# Altium integrated library Xilinx Spartan-II.IntLib: 120 symbols (part 3 of 14)
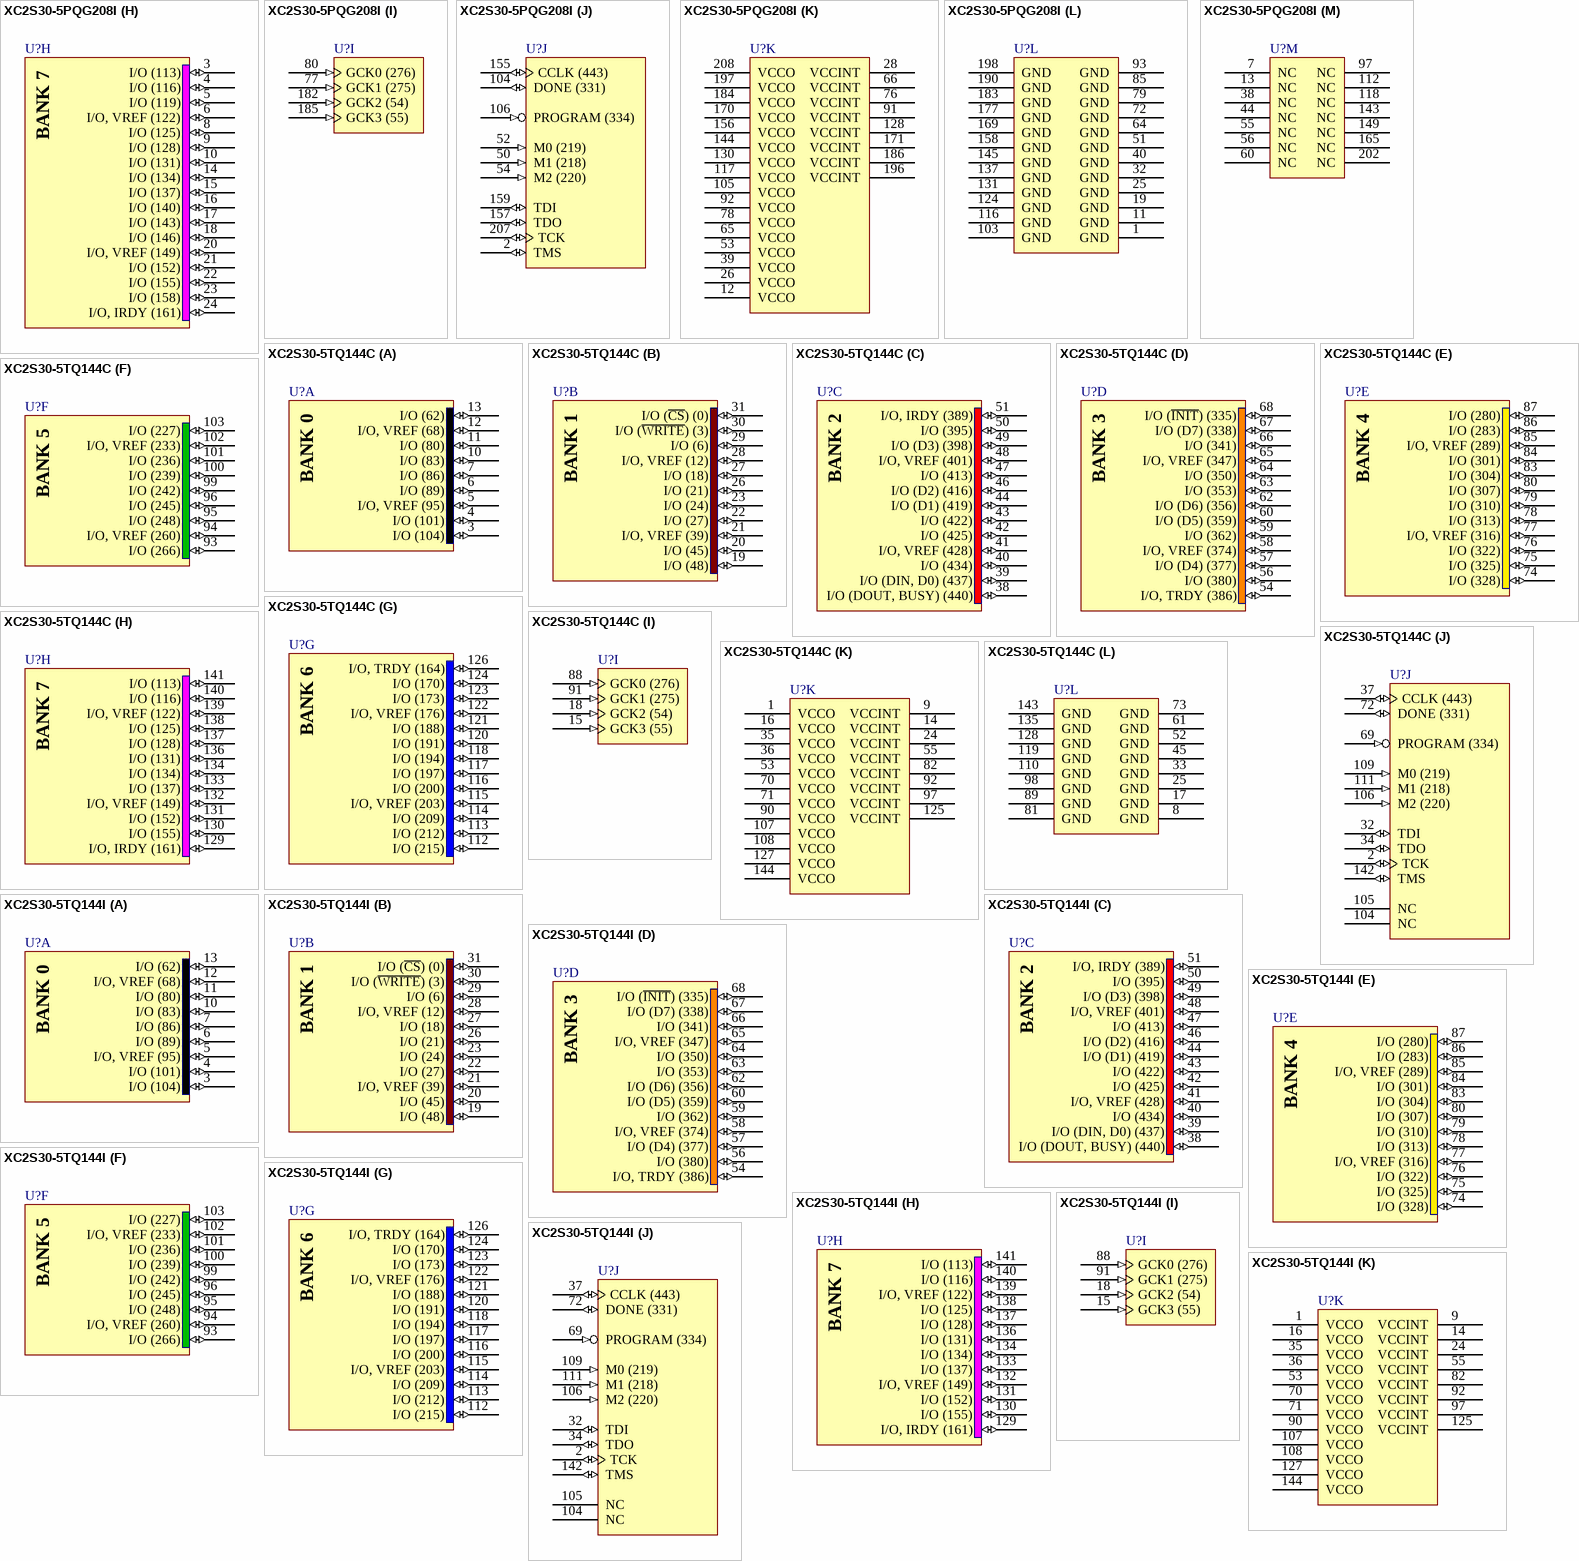
[diagram p73: symbols XC2S30-5PQG208I to XC2S30-5TQ144I]

## XC2S30-5PQG208I
designator U?
Spartan-II 2.5V FPGA, 132 User I/Os, 208-Pin PQFP, Standard Performance, Industrial Grade, Pb-Free; DatasheetVersion: ver2.8, Jun-2008; PackageVersion: ver1.2, Jun-2004; PackageReference: PQG208; PackageDescription: 208-Pin Plastic Quad Flat Pack (PQG208) - Pb-Free; Code_JEDEC: MS-029-FA-1; ComponentLink1Description: Manufacturer URL; ComponentLink1URL: http://www.xilinx.com/; ComponentLink2Description: Spartan-II Datasheet; ComponentLink2URL: http://www.xilinx.com/support/documentation/data_sheets/ds001.pdf; ComponentLink3Description: PQG208 Package Drawing; ComponentLink3URL: http://www.xilinx.com/support/documentation/package_specs/pq208.pdf; ComponentLink4Description: Spartan-II Documents; ComponentLink4URL: http://www.xilinx.com/support/documentation/spartan-ii.htm
footprint PQG208_N (Shrink QFP, 208-Leads, Body 28x28mm, Pitch 0.5mm, IPC Medium Density)
footprint PQG208_L (Shrink QFP, 208-Leads, Body 28x28mm, Pitch 0.5mm, IPC High Density)
footprint PQG208_M (Shrink QFP, 208-Leads, Body 28x28mm, Pitch 0.5mm, IPC Low Density)
part A pins: 187 I/O (62) (io), 188 I/O (65) (io), 189 I/O, VREF (68) (io), 191 I/O (71) (io), 192 I/O (74) (io), 193 I/O (77) (io), 194 I/O (80) (io), 195 I/O (83) (io), 199 I/O (86) (io), 200 I/O (89) (io), 201 I/O (92) (io), 203 I/O, VREF (95) (io), 204 I/O (98) (io), 205 I/O (101) (io), 206 I/O (104) (io)
part B pins: 160 I/O (~{CS}) (0) (io), 161 I/O (~{WRITE}) (3) (io), 162 I/O (6) (io), 163 I/O (9) (io), 164 I/O, VREF (12) (io), 166 I/O (15) (io), 167 I/O (18) (io), 168 I/O (21) (io), 172 I/O (24) (io), 173 I/O (27) (io), 174 I/O (30) (io), 175 I/O (33) (io), 176 I/O (36) (io), 178 I/O, VREF (39) (io), 179 I/O (42) (io), 180 I/O (45) (io), 181 I/O (48) (io)
part C pins: 132 I/O, IRDY (389) (io), 133 I/O (392) (io), 134 I/O (395) (io), 135 I/O (D3) (398) (io), 136 I/O, VREF (401) (io), 138 I/O (404) (io), 139 I/O (407) (io), 140 I/O (410) (io), 141 I/O (413) (io), 142 I/O (D2) (416) (io), 146 I/O (D1) (419) (io), 147 I/O (422) (io), 148 I/O (425) (io), 150 I/O, VREF (428) (io), 151 I/O (431) (io), 152 I/O (434) (io), 153 I/O (DIN, D0) (437) (io), 154 I/O (DOUT, BUSY) (440) (io)
part D pins: 107 I/O (~{INIT}) (335) (io), 108 I/O (D7) (338) (io), 109 I/O (341) (io), 110 I/O (344) (io), 111 I/O, VREF (347) (io), 113 I/O (350) (io), 114 I/O (353) (io), 115 I/O (D6) (356) (io), 119 I/O (D5) (359) (io), 120 I/O (362) (io), 121 I/O (365) (io), 122 I/O (368) (io), 123 I/O (371) (io), 125 I/O, VREF (374) (io), 126 I/O (D4) (377) (io), 127 I/O (380) (io), 129 I/O, TRDY (386) (io)
part E pins: 81 I/O (280) (io), 82 I/O (283) (io), 83 I/O (286) (io), 84 I/O, VREF (289) (io), 86 I/O (292) (io), 87 I/O (295) (io), 88 I/O (298) (io), 89 I/O (301) (io), 90 I/O (304) (io), 94 I/O (307) (io), 95 I/O (310) (io), 96 I/O (313) (io), 98 I/O, VREF (316) (io), 99 I/O (319) (io), 100 I/O (322) (io), 101 I/O (325) (io), 102 I/O (328) (io)
part F pins: 57 I/O (227) (io), 58 I/O (230) (io), 59 I/O, VREF (233) (io), 61 I/O (236) (io), 62 I/O (239) (io), 63 I/O (242) (io), 67 I/O (245) (io), 68 I/O (248) (io), 69 I/O (251) (io), 70 I/O (254) (io), 71 I/O (257) (io), 73 I/O, VREF (260) (io), 74 I/O (263) (io), 75 I/O (266) (io)
part G pins: 27 I/O, TRDY (164) (io), 29 I/O (170) (io), 30 I/O (173) (io), 31 I/O, VREF (176) (io), 33 I/O (179) (io), 34 I/O (182) (io), 35 I/O (185) (io), 36 I/O (188) (io), 37 I/O (191) (io), 41 I/O (194) (io), 42 I/O (197) (io), 43 I/O (200) (io), 45 I/O, VREF (203) (io), 46 I/O (206) (io), 47 I/O (209) (io), 48 I/O (212) (io), 49 I/O (215) (io)
part H pins: 3 I/O (113) (io), 4 I/O (116) (io), 5 I/O (119) (io), 6 I/O, VREF (122) (io), 8 I/O (125) (io), 9 I/O (128) (io), 10 I/O (131) (io), 14 I/O (134) (io), 15 I/O (137) (io), 16 I/O (140) (io), 17 I/O (143) (io), 18 I/O (146) (io), 20 I/O, VREF (149) (io), 21 I/O (152) (io), 22 I/O (155) (io), 23 I/O (158) (io), 24 I/O, IRDY (161) (io)
part I pins: 77 GCK1 (275) (in), 80 GCK0 (276) (in), 182 GCK2 (54) (in), 185 GCK3 (55) (in)
part J pins: 2 TMS (io), 50 M1 (218) (in), 52 M0 (219) (in), 54 M2 (220) (in), 104 DONE (331) (io), 106 PROGRAM (334) (in), 155 CCLK (443) (io), 157 TDO (io), 159 TDI (io), 207 TCK (io)
part K pins: 12 VCCO (power), 26 VCCO (power), 28 VCCINT (power), 39 VCCO (power), 53 VCCO (power), 65 VCCO (power), 66 VCCINT (power), 76 VCCINT (power), 78 VCCO (power), 91 VCCINT (power), 92 VCCO (power), 105 VCCO (power), 117 VCCO (power), 128 VCCINT (power), 130 VCCO (power), 144 VCCO (power), 156 VCCO (power), 170 VCCO (power), 171 VCCINT (power), 184 VCCO (power), 186 VCCINT (power), 196 VCCINT (power), 197 VCCO (power), 208 VCCO (power)
part L pins: 1 GND (power), 11 GND (power), 19 GND (power), 25 GND (power), 32 GND (power), 40 GND (power), 51 GND (power), 64 GND (power), 72 GND (power), 79 GND (power), 85 GND (power), 93 GND (power), 103 GND (power), 116 GND (power), 124 GND (power), 131 GND (power), 137 GND (power), 145 GND (power), 158 GND (power), 169 GND (power), 177 GND (power), 183 GND (power), 190 GND (power), 198 GND (power)
part M pins: 7 NC, 13 NC, 38 NC, 44 NC, 55 NC, 56 NC, 60 NC, 97 NC, 112 NC, 118 NC, 143 NC, 149 NC, 165 NC, 202 NC
part A text: BANK 0
part B text: BANK 1
part C text: BANK 2
part D text: BANK 3
part E text: BANK 4
part F text: BANK 5
part G text: BANK 6
part H text: BANK 7

## XC2S30-5TQ144C
designator U?
Spartan-II 2.5V FPGA, 92 User I/Os, 144-Pin TQFP, Standard Performance, Commercial Grade; DatasheetVersion: ver2.8, Jun-2008; PackageVersion: ver1.2, Jun-2004; PackageReference: TQ144; PackageDescription: 144-Pin Thin Quad Flat Pack (TQ144); Code_JEDEC: MS-026-BFB; ComponentLink1Description: Manufacturer URL; ComponentLink1URL: http://www.xilinx.com/; ComponentLink2Description: Spartan-II Datasheet; ComponentLink2URL: http://www.xilinx.com/support/documentation/data_sheets/ds001.pdf; ComponentLink3Description: TQ144 Package Drawing; ComponentLink3URL: http://www.xilinx.com/support/documentation/package_specs/tq144.pdf; ComponentLink4Description: Spartan-II Documents; ComponentLink4URL: http://www.xilinx.com/support/documentation/spartan-ii.htm
footprint TQ144_N (Thin QFP, 144-Leads, Body 20x20mm, Pitch 0.5mm, IPC Medium Density)
footprint TQ144_L (Thin QFP, 144-Leads, Body 20x20mm, Pitch 0.5mm, IPC High Density)
footprint TQ144_M (Thin QFP, 144-Leads, Body 20x20mm, Pitch 0.5mm, IPC Low Density)
part A pins: 3 I/O (104) (io), 4 I/O (101) (io), 5 I/O, VREF (95) (io), 6 I/O (89) (io), 7 I/O (86) (io), 10 I/O (83) (io), 11 I/O (80) (io), 12 I/O, VREF (68) (io), 13 I/O (62) (io)
part B pins: 19 I/O (48) (io), 20 I/O (45) (io), 21 I/O, VREF (39) (io), 22 I/O (27) (io), 23 I/O (24) (io), 26 I/O (21) (io), 27 I/O (18) (io), 28 I/O, VREF (12) (io), 29 I/O (6) (io), 30 I/O (~{WRITE}) (3) (io), 31 I/O (~{CS}) (0) (io)
part C pins: 38 I/O (DOUT, BUSY) (440) (io), 39 I/O (DIN, D0) (437) (io), 40 I/O (434) (io), 41 I/O, VREF (428) (io), 42 I/O (425) (io), 43 I/O (422) (io), 44 I/O (D1) (419) (io), 46 I/O (D2) (416) (io), 47 I/O (413) (io), 48 I/O, VREF (401) (io), 49 I/O (D3) (398) (io), 50 I/O (395) (io), 51 I/O, IRDY (389) (io)
part D pins: 54 I/O, TRDY (386) (io), 56 I/O (380) (io), 57 I/O (D4) (377) (io), 58 I/O, VREF (374) (io), 59 I/O (362) (io), 60 I/O (D5) (359) (io), 62 I/O (D6) (356) (io), 63 I/O (353) (io), 64 I/O (350) (io), 65 I/O, VREF (347) (io), 66 I/O (341) (io), 67 I/O (D7) (338) (io), 68 I/O (~{INIT}) (335) (io)
part E pins: 74 I/O (328) (io), 75 I/O (325) (io), 76 I/O (322) (io), 77 I/O, VREF (316) (io), 78 I/O (313) (io), 79 I/O (310) (io), 80 I/O (307) (io), 83 I/O (304) (io), 84 I/O (301) (io), 85 I/O, VREF (289) (io), 86 I/O (283) (io), 87 I/O (280) (io)
part F pins: 93 I/O (266) (io), 94 I/O, VREF (260) (io), 95 I/O (248) (io), 96 I/O (245) (io), 99 I/O (242) (io), 100 I/O (239) (io), 101 I/O (236) (io), 102 I/O, VREF (233) (io), 103 I/O (227) (io)
part G pins: 112 I/O (215) (io), 113 I/O (212) (io), 114 I/O (209) (io), 115 I/O, VREF (203) (io), 116 I/O (200) (io), 117 I/O (197) (io), 118 I/O (194) (io), 120 I/O (191) (io), 121 I/O (188) (io), 122 I/O, VREF (176) (io), 123 I/O (173) (io), 124 I/O (170) (io), 126 I/O, TRDY (164) (io)
part H pins: 129 I/O, IRDY (161) (io), 130 I/O (155) (io), 131 I/O (152) (io), 132 I/O, VREF (149) (io), 133 I/O (137) (io), 134 I/O (134) (io), 136 I/O (131) (io), 137 I/O (128) (io), 138 I/O (125) (io), 139 I/O, VREF (122) (io), 140 I/O (116) (io), 141 I/O (113) (io)
part I pins: 15 GCK3 (55) (in), 18 GCK2 (54) (in), 88 GCK0 (276) (in), 91 GCK1 (275) (in)
part J pins: 2 TCK (io), 32 TDI (io), 34 TDO (io), 37 CCLK (443) (io), 69 PROGRAM (334) (in), 72 DONE (331) (io), 104 NC, 105 NC, 106 M2 (220) (in), 109 M0 (219) (in), 111 M1 (218) (in), 142 TMS (io)
part K pins: 1 VCCO (power), 9 VCCINT (power), 14 VCCINT (power), 16 VCCO (power), 24 VCCINT (power), 35 VCCO (power), 36 VCCO (power), 53 VCCO (power), 55 VCCINT (power), 70 VCCO (power), 71 VCCO (power), 82 VCCINT (power), 90 VCCO (power), 92 VCCINT (power), 97 VCCINT (power), 107 VCCO (power), 108 VCCO (power), 125 VCCINT (power), 127 VCCO (power), 144 VCCO (power)
part L pins: 8 GND (power), 17 GND (power), 25 GND (power), 33 GND (power), 45 GND (power), 52 GND (power), 61 GND (power), 73 GND (power), 81 GND (power), 89 GND (power), 98 GND (power), 110 GND (power), 119 GND (power), 128 GND (power), 135 GND (power), 143 GND (power)
part A text: BANK 0
part B text: BANK 1
part C text: BANK 2
part D text: BANK 3
part E text: BANK 4
part F text: BANK 5
part G text: BANK 6
part H text: BANK 7

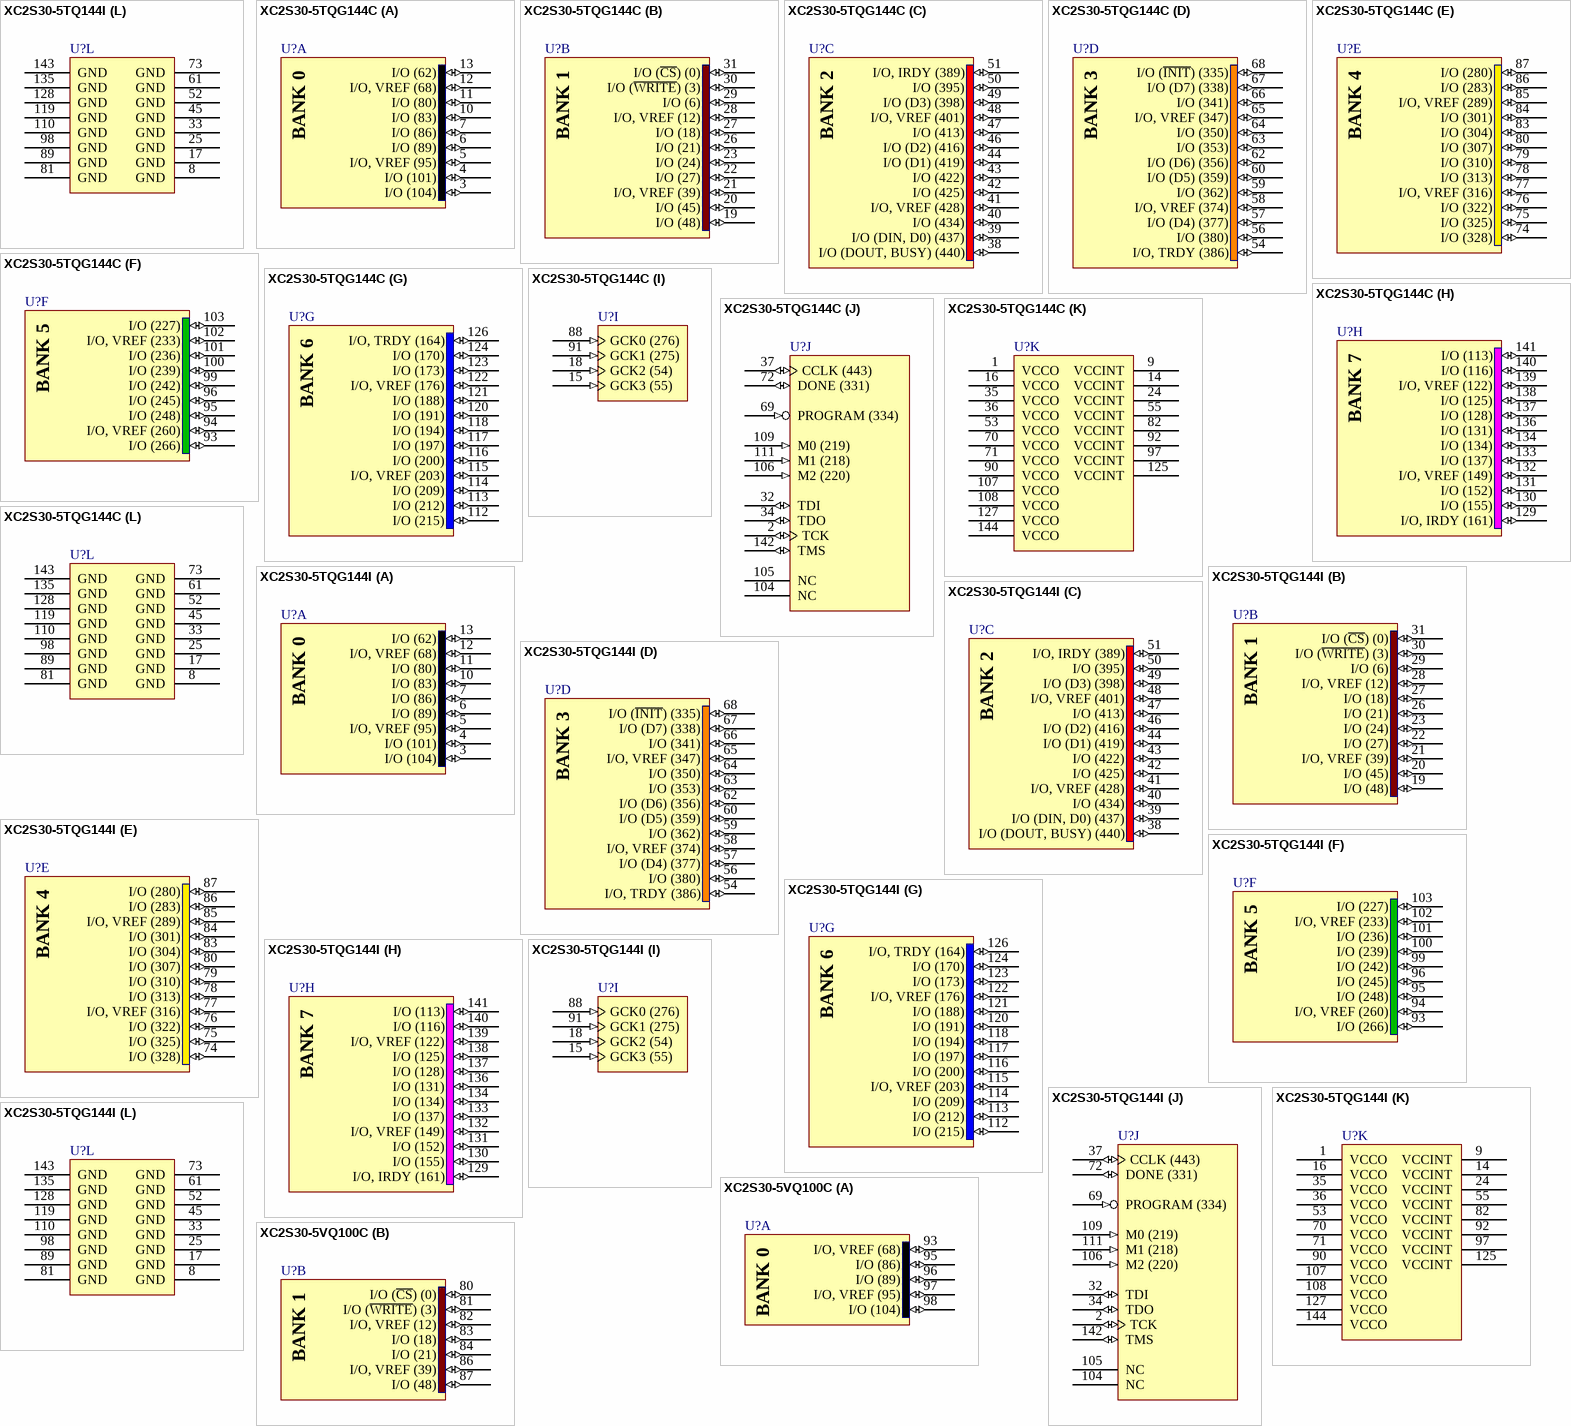
[diagram p12: symbols XC2S30-5TQ144I to XC2S30-5VQ100C]

## XC2S30-5TQ144I
designator U?
Spartan-II 2.5V FPGA, 92 User I/Os, 144-Pin TQFP, Standard Performance, Industrial Grade; DatasheetVersion: ver2.8, Jun-2008; PackageVersion: ver1.2, Jun-2004; PackageReference: TQ144; PackageDescription: 144-Pin Thin Quad Flat Pack (TQ144); Code_JEDEC: MS-026-BFB; ComponentLink1Description: Manufacturer URL; ComponentLink1URL: http://www.xilinx.com/; ComponentLink2Description: Spartan-II Datasheet; ComponentLink2URL: http://www.xilinx.com/support/documentation/data_sheets/ds001.pdf; ComponentLink3Description: TQ144 Package Drawing; ComponentLink3URL: http://www.xilinx.com/support/documentation/package_specs/tq144.pdf; ComponentLink4Description: Spartan-II Documents; ComponentLink4URL: http://www.xilinx.com/support/documentation/spartan-ii.htm
footprint TQ144_N (Thin QFP, 144-Leads, Body 20x20mm, Pitch 0.5mm, IPC Medium Density)
footprint TQ144_L (Thin QFP, 144-Leads, Body 20x20mm, Pitch 0.5mm, IPC High Density)
footprint TQ144_M (Thin QFP, 144-Leads, Body 20x20mm, Pitch 0.5mm, IPC Low Density)
part A pins: 3 I/O (104) (io), 4 I/O (101) (io), 5 I/O, VREF (95) (io), 6 I/O (89) (io), 7 I/O (86) (io), 10 I/O (83) (io), 11 I/O (80) (io), 12 I/O, VREF (68) (io), 13 I/O (62) (io)
part B pins: 19 I/O (48) (io), 20 I/O (45) (io), 21 I/O, VREF (39) (io), 22 I/O (27) (io), 23 I/O (24) (io), 26 I/O (21) (io), 27 I/O (18) (io), 28 I/O, VREF (12) (io), 29 I/O (6) (io), 30 I/O (~{WRITE}) (3) (io), 31 I/O (~{CS}) (0) (io)
part C pins: 38 I/O (DOUT, BUSY) (440) (io), 39 I/O (DIN, D0) (437) (io), 40 I/O (434) (io), 41 I/O, VREF (428) (io), 42 I/O (425) (io), 43 I/O (422) (io), 44 I/O (D1) (419) (io), 46 I/O (D2) (416) (io), 47 I/O (413) (io), 48 I/O, VREF (401) (io), 49 I/O (D3) (398) (io), 50 I/O (395) (io), 51 I/O, IRDY (389) (io)
part D pins: 54 I/O, TRDY (386) (io), 56 I/O (380) (io), 57 I/O (D4) (377) (io), 58 I/O, VREF (374) (io), 59 I/O (362) (io), 60 I/O (D5) (359) (io), 62 I/O (D6) (356) (io), 63 I/O (353) (io), 64 I/O (350) (io), 65 I/O, VREF (347) (io), 66 I/O (341) (io), 67 I/O (D7) (338) (io), 68 I/O (~{INIT}) (335) (io)
part E pins: 74 I/O (328) (io), 75 I/O (325) (io), 76 I/O (322) (io), 77 I/O, VREF (316) (io), 78 I/O (313) (io), 79 I/O (310) (io), 80 I/O (307) (io), 83 I/O (304) (io), 84 I/O (301) (io), 85 I/O, VREF (289) (io), 86 I/O (283) (io), 87 I/O (280) (io)
part F pins: 93 I/O (266) (io), 94 I/O, VREF (260) (io), 95 I/O (248) (io), 96 I/O (245) (io), 99 I/O (242) (io), 100 I/O (239) (io), 101 I/O (236) (io), 102 I/O, VREF (233) (io), 103 I/O (227) (io)
part G pins: 112 I/O (215) (io), 113 I/O (212) (io), 114 I/O (209) (io), 115 I/O, VREF (203) (io), 116 I/O (200) (io), 117 I/O (197) (io), 118 I/O (194) (io), 120 I/O (191) (io), 121 I/O (188) (io), 122 I/O, VREF (176) (io), 123 I/O (173) (io), 124 I/O (170) (io), 126 I/O, TRDY (164) (io)
part H pins: 129 I/O, IRDY (161) (io), 130 I/O (155) (io), 131 I/O (152) (io), 132 I/O, VREF (149) (io), 133 I/O (137) (io), 134 I/O (134) (io), 136 I/O (131) (io), 137 I/O (128) (io), 138 I/O (125) (io), 139 I/O, VREF (122) (io), 140 I/O (116) (io), 141 I/O (113) (io)
part I pins: 15 GCK3 (55) (in), 18 GCK2 (54) (in), 88 GCK0 (276) (in), 91 GCK1 (275) (in)
part J pins: 2 TCK (io), 32 TDI (io), 34 TDO (io), 37 CCLK (443) (io), 69 PROGRAM (334) (in), 72 DONE (331) (io), 104 NC, 105 NC, 106 M2 (220) (in), 109 M0 (219) (in), 111 M1 (218) (in), 142 TMS (io)
part K pins: 1 VCCO (power), 9 VCCINT (power), 14 VCCINT (power), 16 VCCO (power), 24 VCCINT (power), 35 VCCO (power), 36 VCCO (power), 53 VCCO (power), 55 VCCINT (power), 70 VCCO (power), 71 VCCO (power), 82 VCCINT (power), 90 VCCO (power), 92 VCCINT (power), 97 VCCINT (power), 107 VCCO (power), 108 VCCO (power), 125 VCCINT (power), 127 VCCO (power), 144 VCCO (power)
part L pins: 8 GND (power), 17 GND (power), 25 GND (power), 33 GND (power), 45 GND (power), 52 GND (power), 61 GND (power), 73 GND (power), 81 GND (power), 89 GND (power), 98 GND (power), 110 GND (power), 119 GND (power), 128 GND (power), 135 GND (power), 143 GND (power)
part A text: BANK 0
part B text: BANK 1
part C text: BANK 2
part D text: BANK 3
part E text: BANK 4
part F text: BANK 5
part G text: BANK 6
part H text: BANK 7

## XC2S30-5TQG144C
designator U?
Spartan-II 2.5V FPGA, 92 User I/Os, 144-Pin TQFP, Standard Performance, Commercial Grade, Pb-Free; DatasheetVersion: ver2.8, Jun-2008; PackageVersion: ver1.2, Jun-2004; PackageReference: TQG144; PackageDescription: 144-Pin Thin Quad Flat Pack (TQG144) - Pb-Free; Code_JEDEC: MS-026-BFB; ComponentLink1Description: Manufacturer URL; ComponentLink1URL: http://www.xilinx.com/; ComponentLink2Description: Spartan-II Datasheet; ComponentLink2URL: http://www.xilinx.com/support/documentation/data_sheets/ds001.pdf; ComponentLink3Description: TQG144 Package Drawing; ComponentLink3URL: http://www.xilinx.com/support/documentation/package_specs/tq144.pdf; ComponentLink4Description: Spartan-II Documents; ComponentLink4URL: http://www.xilinx.com/support/documentation/spartan-ii.htm
footprint TQG144_N (Thin QFP, 144-Leads, Body 20x20mm, Pitch 0.5mm, IPC Medium Density)
footprint TQG144_L (Thin QFP, 144-Leads, Body 20x20mm, Pitch 0.5mm, IPC High Density)
footprint TQG144_M (Thin QFP, 144-Leads, Body 20x20mm, Pitch 0.5mm, IPC Low Density)
part A pins: 3 I/O (104) (io), 4 I/O (101) (io), 5 I/O, VREF (95) (io), 6 I/O (89) (io), 7 I/O (86) (io), 10 I/O (83) (io), 11 I/O (80) (io), 12 I/O, VREF (68) (io), 13 I/O (62) (io)
part B pins: 19 I/O (48) (io), 20 I/O (45) (io), 21 I/O, VREF (39) (io), 22 I/O (27) (io), 23 I/O (24) (io), 26 I/O (21) (io), 27 I/O (18) (io), 28 I/O, VREF (12) (io), 29 I/O (6) (io), 30 I/O (~{WRITE}) (3) (io), 31 I/O (~{CS}) (0) (io)
part C pins: 38 I/O (DOUT, BUSY) (440) (io), 39 I/O (DIN, D0) (437) (io), 40 I/O (434) (io), 41 I/O, VREF (428) (io), 42 I/O (425) (io), 43 I/O (422) (io), 44 I/O (D1) (419) (io), 46 I/O (D2) (416) (io), 47 I/O (413) (io), 48 I/O, VREF (401) (io), 49 I/O (D3) (398) (io), 50 I/O (395) (io), 51 I/O, IRDY (389) (io)
part D pins: 54 I/O, TRDY (386) (io), 56 I/O (380) (io), 57 I/O (D4) (377) (io), 58 I/O, VREF (374) (io), 59 I/O (362) (io), 60 I/O (D5) (359) (io), 62 I/O (D6) (356) (io), 63 I/O (353) (io), 64 I/O (350) (io), 65 I/O, VREF (347) (io), 66 I/O (341) (io), 67 I/O (D7) (338) (io), 68 I/O (~{INIT}) (335) (io)
part E pins: 74 I/O (328) (io), 75 I/O (325) (io), 76 I/O (322) (io), 77 I/O, VREF (316) (io), 78 I/O (313) (io), 79 I/O (310) (io), 80 I/O (307) (io), 83 I/O (304) (io), 84 I/O (301) (io), 85 I/O, VREF (289) (io), 86 I/O (283) (io), 87 I/O (280) (io)
part F pins: 93 I/O (266) (io), 94 I/O, VREF (260) (io), 95 I/O (248) (io), 96 I/O (245) (io), 99 I/O (242) (io), 100 I/O (239) (io), 101 I/O (236) (io), 102 I/O, VREF (233) (io), 103 I/O (227) (io)
part G pins: 112 I/O (215) (io), 113 I/O (212) (io), 114 I/O (209) (io), 115 I/O, VREF (203) (io), 116 I/O (200) (io), 117 I/O (197) (io), 118 I/O (194) (io), 120 I/O (191) (io), 121 I/O (188) (io), 122 I/O, VREF (176) (io), 123 I/O (173) (io), 124 I/O (170) (io), 126 I/O, TRDY (164) (io)
part H pins: 129 I/O, IRDY (161) (io), 130 I/O (155) (io), 131 I/O (152) (io), 132 I/O, VREF (149) (io), 133 I/O (137) (io), 134 I/O (134) (io), 136 I/O (131) (io), 137 I/O (128) (io), 138 I/O (125) (io), 139 I/O, VREF (122) (io), 140 I/O (116) (io), 141 I/O (113) (io)
part I pins: 15 GCK3 (55) (in), 18 GCK2 (54) (in), 88 GCK0 (276) (in), 91 GCK1 (275) (in)
part J pins: 2 TCK (io), 32 TDI (io), 34 TDO (io), 37 CCLK (443) (io), 69 PROGRAM (334) (in), 72 DONE (331) (io), 104 NC, 105 NC, 106 M2 (220) (in), 109 M0 (219) (in), 111 M1 (218) (in), 142 TMS (io)
part K pins: 1 VCCO (power), 9 VCCINT (power), 14 VCCINT (power), 16 VCCO (power), 24 VCCINT (power), 35 VCCO (power), 36 VCCO (power), 53 VCCO (power), 55 VCCINT (power), 70 VCCO (power), 71 VCCO (power), 82 VCCINT (power), 90 VCCO (power), 92 VCCINT (power), 97 VCCINT (power), 107 VCCO (power), 108 VCCO (power), 125 VCCINT (power), 127 VCCO (power), 144 VCCO (power)
part L pins: 8 GND (power), 17 GND (power), 25 GND (power), 33 GND (power), 45 GND (power), 52 GND (power), 61 GND (power), 73 GND (power), 81 GND (power), 89 GND (power), 98 GND (power), 110 GND (power), 119 GND (power), 128 GND (power), 135 GND (power), 143 GND (power)
part A text: BANK 0
part B text: BANK 1
part C text: BANK 2
part D text: BANK 3
part E text: BANK 4
part F text: BANK 5
part G text: BANK 6
part H text: BANK 7

## XC2S30-5TQG144I
designator U?
Spartan-II 2.5V FPGA, 92 User I/Os, 144-Pin TQFP, Standard Performance, Industrial Grade, Pb-Free; DatasheetVersion: ver2.8, Jun-2008; PackageVersion: ver1.2, Jun-2004; PackageReference: TQG144; PackageDescription: 144-Pin Thin Quad Flat Pack (TQG144) - Pb-Free; Code_JEDEC: MS-026-BFB; ComponentLink1Description: Manufacturer URL; ComponentLink1URL: http://www.xilinx.com/; ComponentLink2Description: Spartan-II Datasheet; ComponentLink2URL: http://www.xilinx.com/support/documentation/data_sheets/ds001.pdf; ComponentLink3Description: TQG144 Package Drawing; ComponentLink3URL: http://www.xilinx.com/support/documentation/package_specs/tq144.pdf; ComponentLink4Description: Spartan-II Documents; ComponentLink4URL: http://www.xilinx.com/support/documentation/spartan-ii.htm
footprint TQG144_N (Thin QFP, 144-Leads, Body 20x20mm, Pitch 0.5mm, IPC Medium Density)
footprint TQG144_L (Thin QFP, 144-Leads, Body 20x20mm, Pitch 0.5mm, IPC High Density)
footprint TQG144_M (Thin QFP, 144-Leads, Body 20x20mm, Pitch 0.5mm, IPC Low Density)
part A pins: 3 I/O (104) (io), 4 I/O (101) (io), 5 I/O, VREF (95) (io), 6 I/O (89) (io), 7 I/O (86) (io), 10 I/O (83) (io), 11 I/O (80) (io), 12 I/O, VREF (68) (io), 13 I/O (62) (io)
part B pins: 19 I/O (48) (io), 20 I/O (45) (io), 21 I/O, VREF (39) (io), 22 I/O (27) (io), 23 I/O (24) (io), 26 I/O (21) (io), 27 I/O (18) (io), 28 I/O, VREF (12) (io), 29 I/O (6) (io), 30 I/O (~{WRITE}) (3) (io), 31 I/O (~{CS}) (0) (io)
part C pins: 38 I/O (DOUT, BUSY) (440) (io), 39 I/O (DIN, D0) (437) (io), 40 I/O (434) (io), 41 I/O, VREF (428) (io), 42 I/O (425) (io), 43 I/O (422) (io), 44 I/O (D1) (419) (io), 46 I/O (D2) (416) (io), 47 I/O (413) (io), 48 I/O, VREF (401) (io), 49 I/O (D3) (398) (io), 50 I/O (395) (io), 51 I/O, IRDY (389) (io)
part D pins: 54 I/O, TRDY (386) (io), 56 I/O (380) (io), 57 I/O (D4) (377) (io), 58 I/O, VREF (374) (io), 59 I/O (362) (io), 60 I/O (D5) (359) (io), 62 I/O (D6) (356) (io), 63 I/O (353) (io), 64 I/O (350) (io), 65 I/O, VREF (347) (io), 66 I/O (341) (io), 67 I/O (D7) (338) (io), 68 I/O (~{INIT}) (335) (io)
part E pins: 74 I/O (328) (io), 75 I/O (325) (io), 76 I/O (322) (io), 77 I/O, VREF (316) (io), 78 I/O (313) (io), 79 I/O (310) (io), 80 I/O (307) (io), 83 I/O (304) (io), 84 I/O (301) (io), 85 I/O, VREF (289) (io), 86 I/O (283) (io), 87 I/O (280) (io)
part F pins: 93 I/O (266) (io), 94 I/O, VREF (260) (io), 95 I/O (248) (io), 96 I/O (245) (io), 99 I/O (242) (io), 100 I/O (239) (io), 101 I/O (236) (io), 102 I/O, VREF (233) (io), 103 I/O (227) (io)
part G pins: 112 I/O (215) (io), 113 I/O (212) (io), 114 I/O (209) (io), 115 I/O, VREF (203) (io), 116 I/O (200) (io), 117 I/O (197) (io), 118 I/O (194) (io), 120 I/O (191) (io), 121 I/O (188) (io), 122 I/O, VREF (176) (io), 123 I/O (173) (io), 124 I/O (170) (io), 126 I/O, TRDY (164) (io)
part H pins: 129 I/O, IRDY (161) (io), 130 I/O (155) (io), 131 I/O (152) (io), 132 I/O, VREF (149) (io), 133 I/O (137) (io), 134 I/O (134) (io), 136 I/O (131) (io), 137 I/O (128) (io), 138 I/O (125) (io), 139 I/O, VREF (122) (io), 140 I/O (116) (io), 141 I/O (113) (io)
part I pins: 15 GCK3 (55) (in), 18 GCK2 (54) (in), 88 GCK0 (276) (in), 91 GCK1 (275) (in)
part J pins: 2 TCK (io), 32 TDI (io), 34 TDO (io), 37 CCLK (443) (io), 69 PROGRAM (334) (in), 72 DONE (331) (io), 104 NC, 105 NC, 106 M2 (220) (in), 109 M0 (219) (in), 111 M1 (218) (in), 142 TMS (io)
part K pins: 1 VCCO (power), 9 VCCINT (power), 14 VCCINT (power), 16 VCCO (power), 24 VCCINT (power), 35 VCCO (power), 36 VCCO (power), 53 VCCO (power), 55 VCCINT (power), 70 VCCO (power), 71 VCCO (power), 82 VCCINT (power), 90 VCCO (power), 92 VCCINT (power), 97 VCCINT (power), 107 VCCO (power), 108 VCCO (power), 125 VCCINT (power), 127 VCCO (power), 144 VCCO (power)
part L pins: 8 GND (power), 17 GND (power), 25 GND (power), 33 GND (power), 45 GND (power), 52 GND (power), 61 GND (power), 73 GND (power), 81 GND (power), 89 GND (power), 98 GND (power), 110 GND (power), 119 GND (power), 128 GND (power), 135 GND (power), 143 GND (power)
part A text: BANK 0
part B text: BANK 1
part C text: BANK 2
part D text: BANK 3
part E text: BANK 4
part F text: BANK 5
part G text: BANK 6
part H text: BANK 7

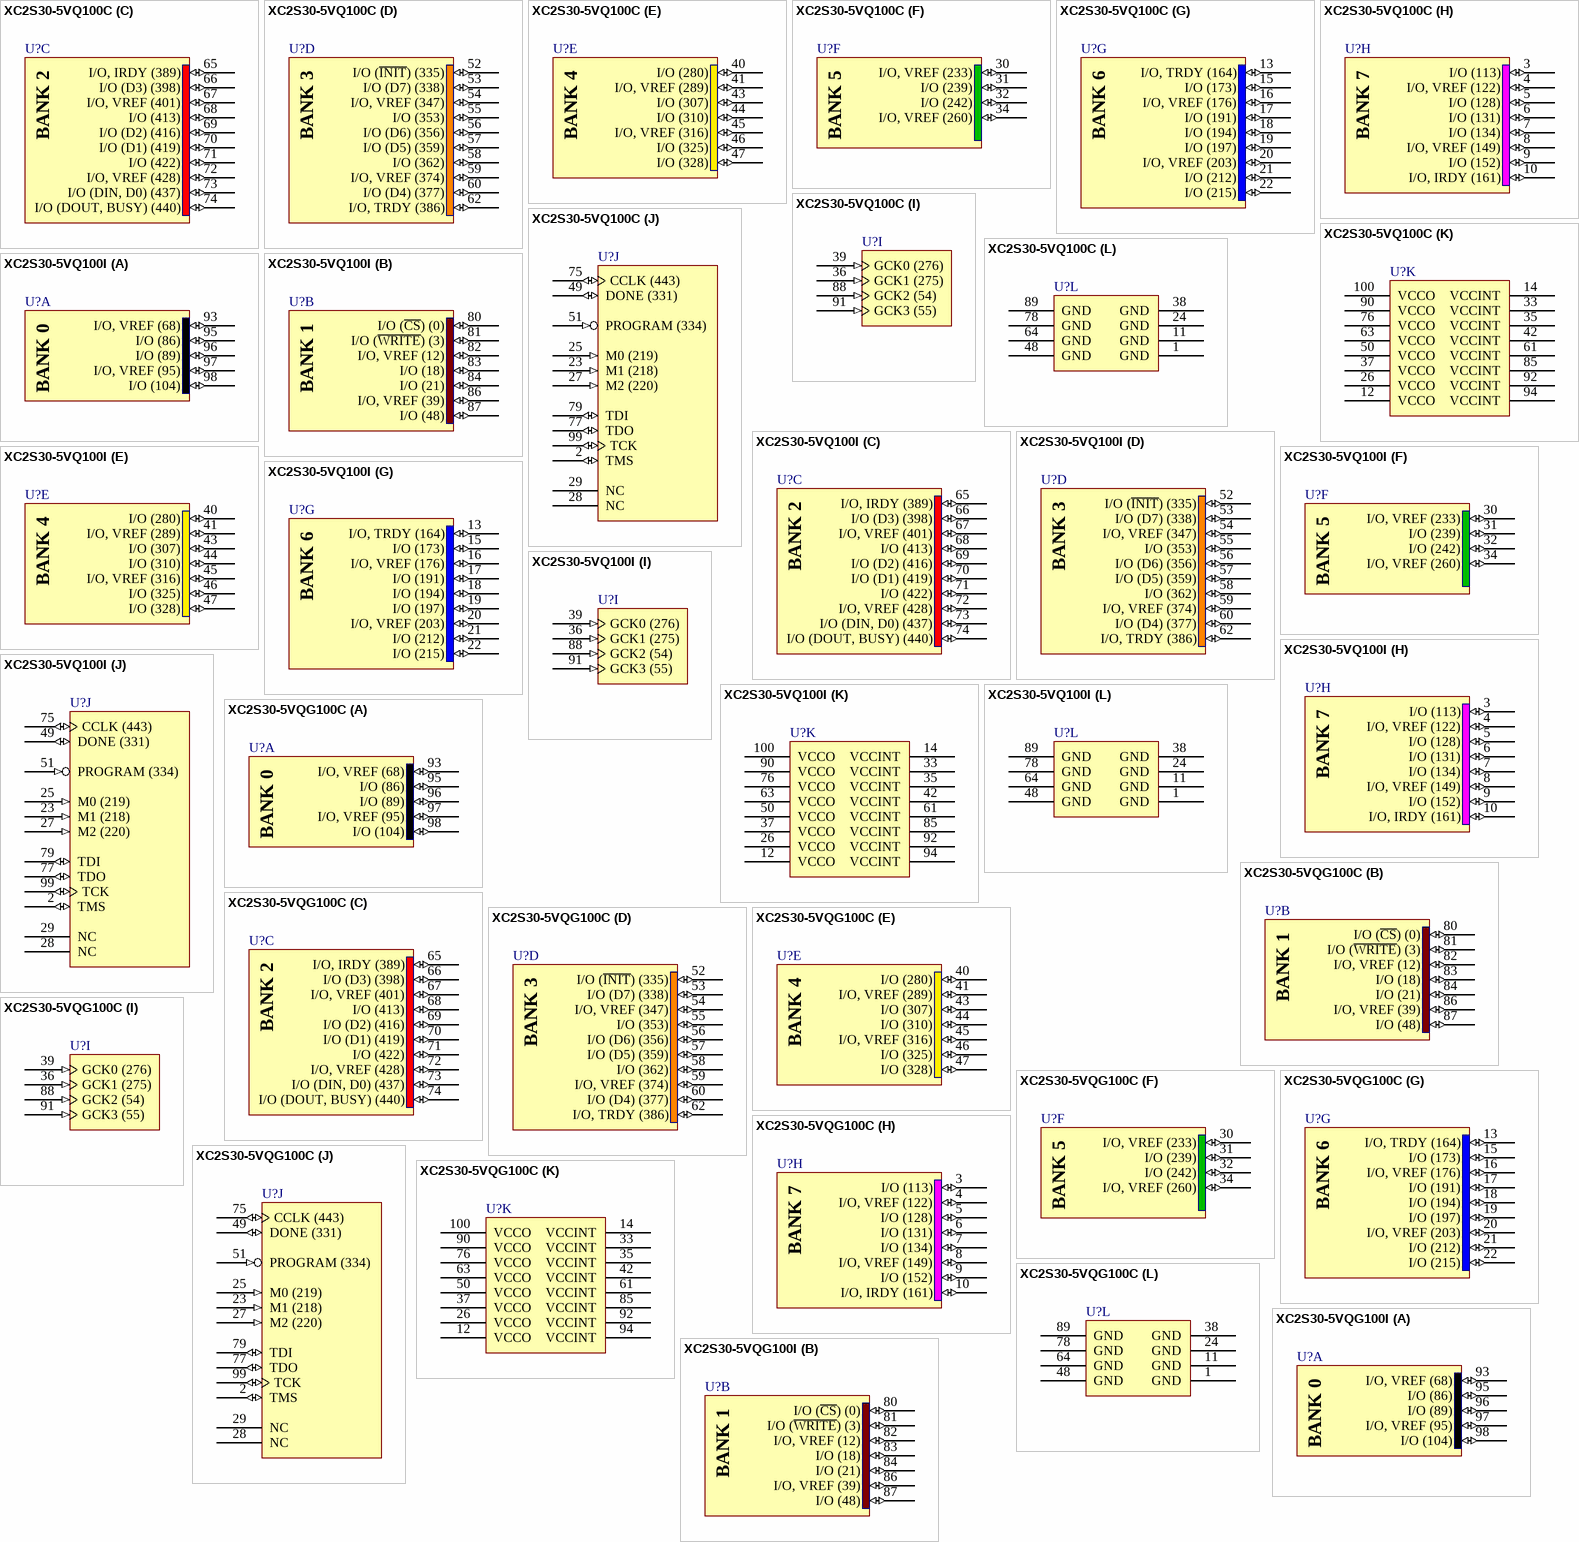
[diagram p13: symbols XC2S30-5VQ100C to XC2S30-5VQG100I]

## XC2S30-5VQ100C
designator U?
Spartan-II 2.5V FPGA, 60 User I/Os, 100-Pin VQFP, Standard Performance, Commercial Grade; DatasheetVersion: ver2.8, Jun-2008; PackageVersion: ver1.2.1, Feb-2007; PackageReference: VQ100; PackageDescription: 100-Pin Very Thin Quad Flat Pack (VQ100); Code_JEDEC: MS-026-AED; ComponentLink1Description: Manufacturer URL; ComponentLink1URL: http://www.xilinx.com/; ComponentLink2Description: Spartan-II Datasheet; ComponentLink2URL: http://www.xilinx.com/support/documentation/data_sheets/ds001.pdf; ComponentLink3Description: VQ100 Package Drawing; ComponentLink3URL: http://www.xilinx.com/support/documentation/package_specs/vq100.pdf; ComponentLink4Description: Spartan-II Documents; ComponentLink4URL: http://www.xilinx.com/support/documentation/spartan-ii.htm
footprint VQ100_N (Thin QFP, 100-Leads, Body 14x14mm, Pitch 0.5mm, IPC Medium Density)
footprint VQ100_L (Thin QFP, 100-Leads, Body 14x14mm, Pitch 0.5mm, IPC High Density)
footprint VQ100_M (Thin QFP, 100-Leads, Body 14x14mm, Pitch 0.5mm, IPC Low Density)
part A pins: 93 I/O, VREF (68) (io), 95 I/O (86) (io), 96 I/O (89) (io), 97 I/O, VREF (95) (io), 98 I/O (104) (io)
part B pins: 80 I/O (~{CS}) (0) (io), 81 I/O (~{WRITE}) (3) (io), 82 I/O, VREF (12) (io), 83 I/O (18) (io), 84 I/O (21) (io), 86 I/O, VREF (39) (io), 87 I/O (48) (io)
part C pins: 65 I/O, IRDY (389) (io), 66 I/O (D3) (398) (io), 67 I/O, VREF (401) (io), 68 I/O (413) (io), 69 I/O (D2) (416) (io), 70 I/O (D1) (419) (io), 71 I/O (422) (io), 72 I/O, VREF (428) (io), 73 I/O (DIN, D0) (437) (io), 74 I/O (DOUT, BUSY) (440) (io)
part D pins: 52 I/O (~{INIT}) (335) (io), 53 I/O (D7) (338) (io), 54 I/O, VREF (347) (io), 55 I/O (353) (io), 56 I/O (D6) (356) (io), 57 I/O (D5) (359) (io), 58 I/O (362) (io), 59 I/O, VREF (374) (io), 60 I/O (D4) (377) (io), 62 I/O, TRDY (386) (io)
part E pins: 40 I/O (280) (io), 41 I/O, VREF (289) (io), 43 I/O (307) (io), 44 I/O (310) (io), 45 I/O, VREF (316) (io), 46 I/O (325) (io), 47 I/O (328) (io)
part F pins: 30 I/O, VREF (233) (io), 31 I/O (239) (io), 32 I/O (242) (io), 34 I/O, VREF (260) (io)
part G pins: 13 I/O, TRDY (164) (io), 15 I/O (173) (io), 16 I/O, VREF (176) (io), 17 I/O (191) (io), 18 I/O (194) (io), 19 I/O (197) (io), 20 I/O, VREF (203) (io), 21 I/O (212) (io), 22 I/O (215) (io)
part H pins: 3 I/O (113) (io), 4 I/O, VREF (122) (io), 5 I/O (128) (io), 6 I/O (131) (io), 7 I/O (134) (io), 8 I/O, VREF (149) (io), 9 I/O (152) (io), 10 I/O, IRDY (161) (io)
part I pins: 36 GCK1 (275) (in), 39 GCK0 (276) (in), 88 GCK2 (54) (in), 91 GCK3 (55) (in)
part J pins: 2 TMS (io), 23 M1 (218) (in), 25 M0 (219) (in), 27 M2 (220) (in), 28 NC, 29 NC, 49 DONE (331) (io), 51 PROGRAM (334) (in), 75 CCLK (443) (io), 77 TDO (io), 79 TDI (io), 99 TCK (io)
part K pins: 12 VCCO (power), 14 VCCINT (power), 26 VCCO (power), 33 VCCINT (power), 35 VCCINT (power), 37 VCCO (power), 42 VCCINT (power), 50 VCCO (power), 61 VCCINT (power), 63 VCCO (power), 76 VCCO (power), 85 VCCINT (power), 90 VCCO (power), 92 VCCINT (power), 94 VCCINT (power), 100 VCCO (power)
part L pins: 1 GND (power), 11 GND (power), 24 GND (power), 38 GND (power), 48 GND (power), 64 GND (power), 78 GND (power), 89 GND (power)
part A text: BANK 0
part B text: BANK 1
part C text: BANK 2
part D text: BANK 3
part E text: BANK 4
part F text: BANK 5
part G text: BANK 6
part H text: BANK 7

## XC2S30-5VQ100I
designator U?
Spartan-II 2.5V FPGA, 60 User I/Os, 100-Pin VQFP, Standard Performance, Industrial Grade; DatasheetVersion: ver2.8, Jun-2008; PackageVersion: ver1.2.1, Feb-2007; PackageReference: VQ100; PackageDescription: 100-Pin Very Thin Quad Flat Pack (VQ100); Code_JEDEC: MS-026-AED; ComponentLink1Description: Manufacturer URL; ComponentLink1URL: http://www.xilinx.com/; ComponentLink2Description: Spartan-II Datasheet; ComponentLink2URL: http://www.xilinx.com/support/documentation/data_sheets/ds001.pdf; ComponentLink3Description: VQ100 Package Drawing; ComponentLink3URL: http://www.xilinx.com/support/documentation/package_specs/vq100.pdf; ComponentLink4Description: Spartan-II Documents; ComponentLink4URL: http://www.xilinx.com/support/documentation/spartan-ii.htm
footprint VQ100_N (Thin QFP, 100-Leads, Body 14x14mm, Pitch 0.5mm, IPC Medium Density)
footprint VQ100_L (Thin QFP, 100-Leads, Body 14x14mm, Pitch 0.5mm, IPC High Density)
footprint VQ100_M (Thin QFP, 100-Leads, Body 14x14mm, Pitch 0.5mm, IPC Low Density)
part A pins: 93 I/O, VREF (68) (io), 95 I/O (86) (io), 96 I/O (89) (io), 97 I/O, VREF (95) (io), 98 I/O (104) (io)
part B pins: 80 I/O (~{CS}) (0) (io), 81 I/O (~{WRITE}) (3) (io), 82 I/O, VREF (12) (io), 83 I/O (18) (io), 84 I/O (21) (io), 86 I/O, VREF (39) (io), 87 I/O (48) (io)
part C pins: 65 I/O, IRDY (389) (io), 66 I/O (D3) (398) (io), 67 I/O, VREF (401) (io), 68 I/O (413) (io), 69 I/O (D2) (416) (io), 70 I/O (D1) (419) (io), 71 I/O (422) (io), 72 I/O, VREF (428) (io), 73 I/O (DIN, D0) (437) (io), 74 I/O (DOUT, BUSY) (440) (io)
part D pins: 52 I/O (~{INIT}) (335) (io), 53 I/O (D7) (338) (io), 54 I/O, VREF (347) (io), 55 I/O (353) (io), 56 I/O (D6) (356) (io), 57 I/O (D5) (359) (io), 58 I/O (362) (io), 59 I/O, VREF (374) (io), 60 I/O (D4) (377) (io), 62 I/O, TRDY (386) (io)
part E pins: 40 I/O (280) (io), 41 I/O, VREF (289) (io), 43 I/O (307) (io), 44 I/O (310) (io), 45 I/O, VREF (316) (io), 46 I/O (325) (io), 47 I/O (328) (io)
part F pins: 30 I/O, VREF (233) (io), 31 I/O (239) (io), 32 I/O (242) (io), 34 I/O, VREF (260) (io)
part G pins: 13 I/O, TRDY (164) (io), 15 I/O (173) (io), 16 I/O, VREF (176) (io), 17 I/O (191) (io), 18 I/O (194) (io), 19 I/O (197) (io), 20 I/O, VREF (203) (io), 21 I/O (212) (io), 22 I/O (215) (io)
part H pins: 3 I/O (113) (io), 4 I/O, VREF (122) (io), 5 I/O (128) (io), 6 I/O (131) (io), 7 I/O (134) (io), 8 I/O, VREF (149) (io), 9 I/O (152) (io), 10 I/O, IRDY (161) (io)
part I pins: 36 GCK1 (275) (in), 39 GCK0 (276) (in), 88 GCK2 (54) (in), 91 GCK3 (55) (in)
part J pins: 2 TMS (io), 23 M1 (218) (in), 25 M0 (219) (in), 27 M2 (220) (in), 28 NC, 29 NC, 49 DONE (331) (io), 51 PROGRAM (334) (in), 75 CCLK (443) (io), 77 TDO (io), 79 TDI (io), 99 TCK (io)
part K pins: 12 VCCO (power), 14 VCCINT (power), 26 VCCO (power), 33 VCCINT (power), 35 VCCINT (power), 37 VCCO (power), 42 VCCINT (power), 50 VCCO (power), 61 VCCINT (power), 63 VCCO (power), 76 VCCO (power), 85 VCCINT (power), 90 VCCO (power), 92 VCCINT (power), 94 VCCINT (power), 100 VCCO (power)
part L pins: 1 GND (power), 11 GND (power), 24 GND (power), 38 GND (power), 48 GND (power), 64 GND (power), 78 GND (power), 89 GND (power)
part A text: BANK 0
part B text: BANK 1
part C text: BANK 2
part D text: BANK 3
part E text: BANK 4
part F text: BANK 5
part G text: BANK 6
part H text: BANK 7

## XC2S30-5VQG100C
designator U?
Spartan-II 2.5V FPGA, 60 User I/Os, 100-Pin VQFP, Standard Performance, Commercial Grade, Pb-Free; DatasheetVersion: ver2.8, Jun-2008; PackageVersion: ver1.2.1, Feb-2007; PackageReference: VQG100; PackageDescription: 100-Pin Very Thin Quad Flat Pack (VQG100) - Pb-Free; Code_JEDEC: MS-026-AED; ComponentLink1Description: Manufacturer URL; ComponentLink1URL: http://www.xilinx.com/; ComponentLink2Description: Spartan-II Datasheet; ComponentLink2URL: http://www.xilinx.com/support/documentation/data_sheets/ds001.pdf; ComponentLink3Description: VQG100 Package Drawing; ComponentLink3URL: http://www.xilinx.com/support/documentation/package_specs/vq100.pdf; ComponentLink4Description: Spartan-II Documents; ComponentLink4URL: http://www.xilinx.com/support/documentation/spartan-ii.htm
footprint VQG100_N (Thin QFP, 100-Leads, Body 14x14mm, Pitch 0.5mm, IPC Medium Density)
footprint VQG100_L (Thin QFP, 100-Leads, Body 14x14mm, Pitch 0.5mm, IPC High Density)
footprint VQG100_M (Thin QFP, 100-Leads, Body 14x14mm, Pitch 0.5mm, IPC Low Density)
part A pins: 93 I/O, VREF (68) (io), 95 I/O (86) (io), 96 I/O (89) (io), 97 I/O, VREF (95) (io), 98 I/O (104) (io)
part B pins: 80 I/O (~{CS}) (0) (io), 81 I/O (~{WRITE}) (3) (io), 82 I/O, VREF (12) (io), 83 I/O (18) (io), 84 I/O (21) (io), 86 I/O, VREF (39) (io), 87 I/O (48) (io)
part C pins: 65 I/O, IRDY (389) (io), 66 I/O (D3) (398) (io), 67 I/O, VREF (401) (io), 68 I/O (413) (io), 69 I/O (D2) (416) (io), 70 I/O (D1) (419) (io), 71 I/O (422) (io), 72 I/O, VREF (428) (io), 73 I/O (DIN, D0) (437) (io), 74 I/O (DOUT, BUSY) (440) (io)
part D pins: 52 I/O (~{INIT}) (335) (io), 53 I/O (D7) (338) (io), 54 I/O, VREF (347) (io), 55 I/O (353) (io), 56 I/O (D6) (356) (io), 57 I/O (D5) (359) (io), 58 I/O (362) (io), 59 I/O, VREF (374) (io), 60 I/O (D4) (377) (io), 62 I/O, TRDY (386) (io)
part E pins: 40 I/O (280) (io), 41 I/O, VREF (289) (io), 43 I/O (307) (io), 44 I/O (310) (io), 45 I/O, VREF (316) (io), 46 I/O (325) (io), 47 I/O (328) (io)
part F pins: 30 I/O, VREF (233) (io), 31 I/O (239) (io), 32 I/O (242) (io), 34 I/O, VREF (260) (io)
part G pins: 13 I/O, TRDY (164) (io), 15 I/O (173) (io), 16 I/O, VREF (176) (io), 17 I/O (191) (io), 18 I/O (194) (io), 19 I/O (197) (io), 20 I/O, VREF (203) (io), 21 I/O (212) (io), 22 I/O (215) (io)
part H pins: 3 I/O (113) (io), 4 I/O, VREF (122) (io), 5 I/O (128) (io), 6 I/O (131) (io), 7 I/O (134) (io), 8 I/O, VREF (149) (io), 9 I/O (152) (io), 10 I/O, IRDY (161) (io)
part I pins: 36 GCK1 (275) (in), 39 GCK0 (276) (in), 88 GCK2 (54) (in), 91 GCK3 (55) (in)
part J pins: 2 TMS (io), 23 M1 (218) (in), 25 M0 (219) (in), 27 M2 (220) (in), 28 NC, 29 NC, 49 DONE (331) (io), 51 PROGRAM (334) (in), 75 CCLK (443) (io), 77 TDO (io), 79 TDI (io), 99 TCK (io)
part K pins: 12 VCCO (power), 14 VCCINT (power), 26 VCCO (power), 33 VCCINT (power), 35 VCCINT (power), 37 VCCO (power), 42 VCCINT (power), 50 VCCO (power), 61 VCCINT (power), 63 VCCO (power), 76 VCCO (power), 85 VCCINT (power), 90 VCCO (power), 92 VCCINT (power), 94 VCCINT (power), 100 VCCO (power)
part L pins: 1 GND (power), 11 GND (power), 24 GND (power), 38 GND (power), 48 GND (power), 64 GND (power), 78 GND (power), 89 GND (power)
part A text: BANK 0
part B text: BANK 1
part C text: BANK 2
part D text: BANK 3
part E text: BANK 4
part F text: BANK 5
part G text: BANK 6
part H text: BANK 7

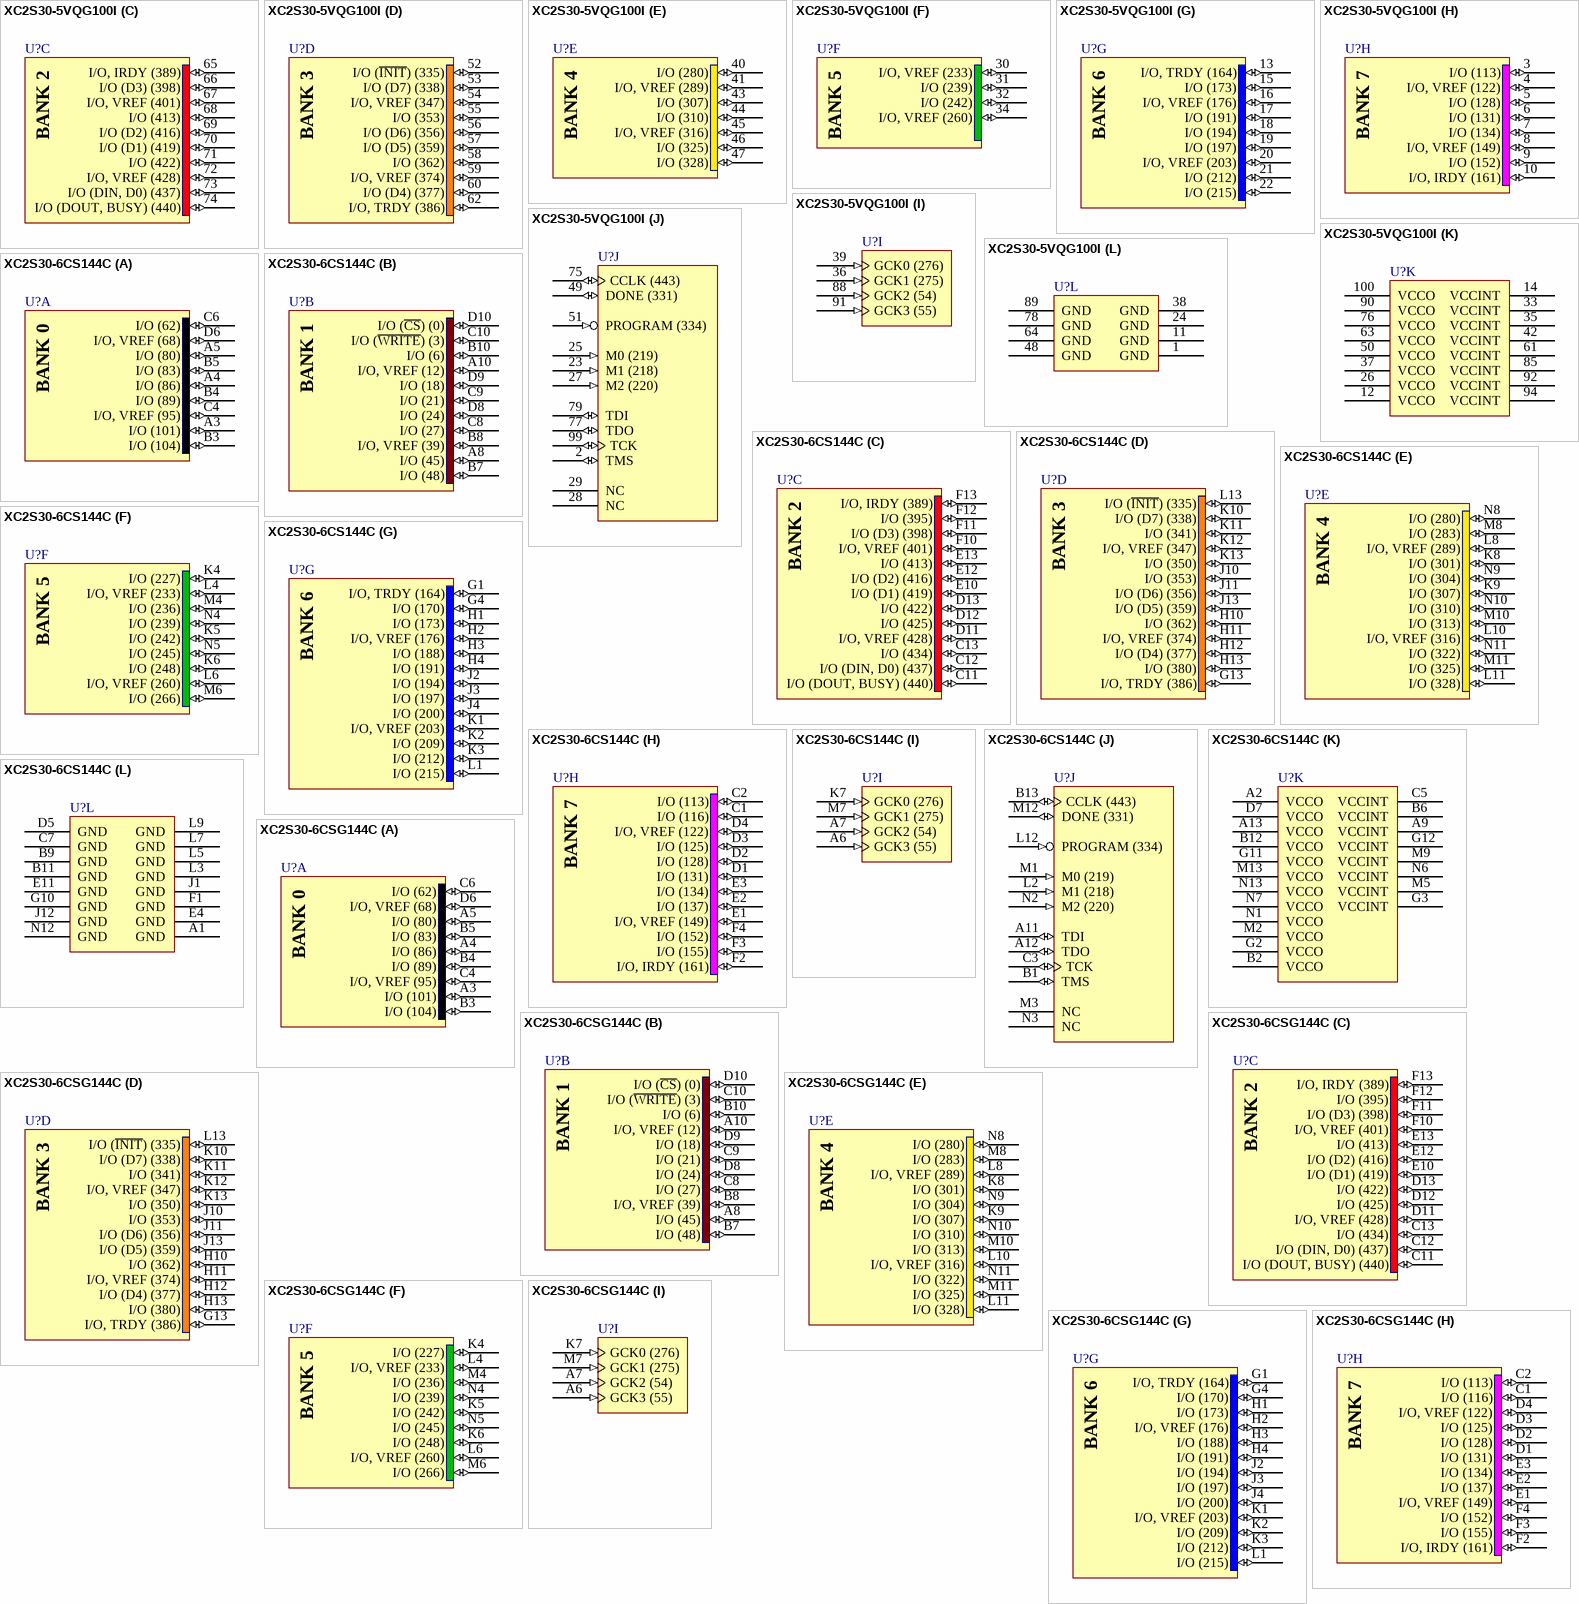
[diagram p14: symbols XC2S30-5VQG100I to XC2S30-6CSG144C]

## XC2S30-5VQG100I
designator U?
Spartan-II 2.5V FPGA, 60 User I/Os, 100-Pin VQFP, Standard Performance, Industrial Grade, Pb-Free; DatasheetVersion: ver2.8, Jun-2008; PackageVersion: ver1.2.1, Feb-2007; PackageReference: VQG100; PackageDescription: 100-Pin Very Thin Quad Flat Pack (VQG100) - Pb-Free; Code_JEDEC: MS-026-AED; ComponentLink1Description: Manufacturer URL; ComponentLink1URL: http://www.xilinx.com/; ComponentLink2Description: Spartan-II Datasheet; ComponentLink2URL: http://www.xilinx.com/support/documentation/data_sheets/ds001.pdf; ComponentLink3Description: VQG100 Package Drawing; ComponentLink3URL: http://www.xilinx.com/support/documentation/package_specs/vq100.pdf; ComponentLink4Description: Spartan-II Documents; ComponentLink4URL: http://www.xilinx.com/support/documentation/spartan-ii.htm
footprint VQG100_N (Thin QFP, 100-Leads, Body 14x14mm, Pitch 0.5mm, IPC Medium Density)
footprint VQG100_L (Thin QFP, 100-Leads, Body 14x14mm, Pitch 0.5mm, IPC High Density)
footprint VQG100_M (Thin QFP, 100-Leads, Body 14x14mm, Pitch 0.5mm, IPC Low Density)
part A pins: 93 I/O, VREF (68) (io), 95 I/O (86) (io), 96 I/O (89) (io), 97 I/O, VREF (95) (io), 98 I/O (104) (io)
part B pins: 80 I/O (~{CS}) (0) (io), 81 I/O (~{WRITE}) (3) (io), 82 I/O, VREF (12) (io), 83 I/O (18) (io), 84 I/O (21) (io), 86 I/O, VREF (39) (io), 87 I/O (48) (io)
part C pins: 65 I/O, IRDY (389) (io), 66 I/O (D3) (398) (io), 67 I/O, VREF (401) (io), 68 I/O (413) (io), 69 I/O (D2) (416) (io), 70 I/O (D1) (419) (io), 71 I/O (422) (io), 72 I/O, VREF (428) (io), 73 I/O (DIN, D0) (437) (io), 74 I/O (DOUT, BUSY) (440) (io)
part D pins: 52 I/O (~{INIT}) (335) (io), 53 I/O (D7) (338) (io), 54 I/O, VREF (347) (io), 55 I/O (353) (io), 56 I/O (D6) (356) (io), 57 I/O (D5) (359) (io), 58 I/O (362) (io), 59 I/O, VREF (374) (io), 60 I/O (D4) (377) (io), 62 I/O, TRDY (386) (io)
part E pins: 40 I/O (280) (io), 41 I/O, VREF (289) (io), 43 I/O (307) (io), 44 I/O (310) (io), 45 I/O, VREF (316) (io), 46 I/O (325) (io), 47 I/O (328) (io)
part F pins: 30 I/O, VREF (233) (io), 31 I/O (239) (io), 32 I/O (242) (io), 34 I/O, VREF (260) (io)
part G pins: 13 I/O, TRDY (164) (io), 15 I/O (173) (io), 16 I/O, VREF (176) (io), 17 I/O (191) (io), 18 I/O (194) (io), 19 I/O (197) (io), 20 I/O, VREF (203) (io), 21 I/O (212) (io), 22 I/O (215) (io)
part H pins: 3 I/O (113) (io), 4 I/O, VREF (122) (io), 5 I/O (128) (io), 6 I/O (131) (io), 7 I/O (134) (io), 8 I/O, VREF (149) (io), 9 I/O (152) (io), 10 I/O, IRDY (161) (io)
part I pins: 36 GCK1 (275) (in), 39 GCK0 (276) (in), 88 GCK2 (54) (in), 91 GCK3 (55) (in)
part J pins: 2 TMS (io), 23 M1 (218) (in), 25 M0 (219) (in), 27 M2 (220) (in), 28 NC, 29 NC, 49 DONE (331) (io), 51 PROGRAM (334) (in), 75 CCLK (443) (io), 77 TDO (io), 79 TDI (io), 99 TCK (io)
part K pins: 12 VCCO (power), 14 VCCINT (power), 26 VCCO (power), 33 VCCINT (power), 35 VCCINT (power), 37 VCCO (power), 42 VCCINT (power), 50 VCCO (power), 61 VCCINT (power), 63 VCCO (power), 76 VCCO (power), 85 VCCINT (power), 90 VCCO (power), 92 VCCINT (power), 94 VCCINT (power), 100 VCCO (power)
part L pins: 1 GND (power), 11 GND (power), 24 GND (power), 38 GND (power), 48 GND (power), 64 GND (power), 78 GND (power), 89 GND (power)
part A text: BANK 0
part B text: BANK 1
part C text: BANK 2
part D text: BANK 3
part E text: BANK 4
part F text: BANK 5
part G text: BANK 6
part H text: BANK 7

## XC2S30-6CS144C
designator U?
Spartan-II 2.5V FPGA, 92 User I/Os, 144-Ball CSBGA, Higher Performance, Commercial Grade; DatasheetVersion: ver2.8, Jun-2008; PackageVersion: ver1.3, Jan-2007; PackageReference: CS144; PackageDescription: 144-Ball Chip Scale Ball Grid Array (CS144); Code_JEDEC: MO-216-BAG-2 (Depopulated); ComponentLink1Description: Manufacturer URL; ComponentLink1URL: http://www.xilinx.com/; ComponentLink2Description: Spartan-II Datasheet; ComponentLink2URL: http://www.xilinx.com/support/documentation/data_sheets/ds001.pdf; ComponentLink3Description: CS144 Package Drawing; ComponentLink3URL: http://www.xilinx.com/support/documentation/package_specs/cs144.pdf; ComponentLink4Description: Spartan-II Documents; ComponentLink4URL: http://www.xilinx.com/support/documentation/spartan-ii.htm
footprint CS144 (BGA, 144-Leads, Body 12x12mm, Pitch 0.8mm)
part A pins: A3 I/O (101) (io), A4 I/O (86) (io), A5 I/O (80) (io), B3 I/O (104) (io), B4 I/O (89) (io), B5 I/O (83) (io), C4 I/O, VREF (95) (io), C6 I/O (62) (io), D6 I/O, VREF (68) (io)
part B pins: A8 I/O (45) (io), A10 I/O, VREF (12) (io), B7 I/O (48) (io), B8 I/O, VREF (39) (io), B10 I/O (6) (io), C8 I/O (27) (io), C9 I/O (21) (io), C10 I/O (~{WRITE}) (3) (io), D8 I/O (24) (io), D9 I/O (18) (io), D10 I/O (~{CS}) (0) (io)
part C pins: C11 I/O (DOUT, BUSY) (440) (io), C12 I/O (DIN, D0) (437) (io), C13 I/O (434) (io), D11 I/O, VREF (428) (io), D12 I/O (425) (io), D13 I/O (422) (io), E10 I/O (D1) (419) (io), E12 I/O (D2) (416) (io), E13 I/O (413) (io), F10 I/O, VREF (401) (io), F11 I/O (D3) (398) (io), F12 I/O (395) (io), F13 I/O, IRDY (389) (io)
part D pins: G13 I/O, TRDY (386) (io), H10 I/O (362) (io), H11 I/O, VREF (374) (io), H12 I/O (D4) (377) (io), H13 I/O (380) (io), J10 I/O (353) (io), J11 I/O (D6) (356) (io), J13 I/O (D5) (359) (io), K10 I/O (D7) (338) (io), K11 I/O (341) (io), K12 I/O, VREF (347) (io), K13 I/O (350) (io), L13 I/O (~{INIT}) (335) (io)
part E pins: K8 I/O (301) (io), K9 I/O (307) (io), L8 I/O, VREF (289) (io), L10 I/O, VREF (316) (io), L11 I/O (328) (io), M8 I/O (283) (io), M10 I/O (313) (io), M11 I/O (325) (io), N8 I/O (280) (io), N9 I/O (304) (io), N10 I/O (310) (io), N11 I/O (322) (io)
part F pins: K4 I/O (227) (io), K5 I/O (242) (io), K6 I/O (248) (io), L4 I/O, VREF (233) (io), L6 I/O, VREF (260) (io), M4 I/O (236) (io), M6 I/O (266) (io), N4 I/O (239) (io), N5 I/O (245) (io)
part G pins: G1 I/O, TRDY (164) (io), G4 I/O (170) (io), H1 I/O (173) (io), H2 I/O, VREF (176) (io), H3 I/O (188) (io), H4 I/O (191) (io), J2 I/O (194) (io), J3 I/O (197) (io), J4 I/O (200) (io), K1 I/O, VREF (203) (io), K2 I/O (209) (io), K3 I/O (212) (io), L1 I/O (215) (io)
part H pins: C1 I/O (116) (io), C2 I/O (113) (io), D1 I/O (131) (io), D2 I/O (128) (io), D3 I/O (125) (io), D4 I/O, VREF (122) (io), E1 I/O, VREF (149) (io), E2 I/O (137) (io), E3 I/O (134) (io), F2 I/O, IRDY (161) (io), F3 I/O (155) (io), F4 I/O (152) (io)
part I pins: A6 GCK3 (55) (in), A7 GCK2 (54) (in), K7 GCK0 (276) (in), M7 GCK1 (275) (in)
part J pins: A11 TDI (io), A12 TDO (io), B1 TMS (io), B13 CCLK (443) (io), C3 TCK (io), L2 M1 (218) (in), L12 PROGRAM (334) (in), M1 M0 (219) (in), M3 NC, M12 DONE (331) (io), N2 M2 (220) (in), N3 NC
part K pins: A2 VCCO (power), A9 VCCINT (power), A13 VCCO (power), B2 VCCO (power), B6 VCCINT (power), B12 VCCO (power), C5 VCCINT (power), D7 VCCO (power), G2 VCCO (power), G3 VCCINT (power), G11 VCCO (power), G12 VCCINT (power), M2 VCCO (power), M5 VCCINT (power), M9 VCCINT (power), M13 VCCO (power), N1 VCCO (power), N6 VCCINT (power), N7 VCCO (power), N13 VCCO (power)
part L pins: A1 GND (power), B9 GND (power), B11 GND (power), C7 GND (power), D5 GND (power), E4 GND (power), E11 GND (power), F1 GND (power), G10 GND (power), J1 GND (power), J12 GND (power), L3 GND (power), L5 GND (power), L7 GND (power), L9 GND (power), N12 GND (power)
part A text: BANK 0
part B text: BANK 1
part C text: BANK 2
part D text: BANK 3
part E text: BANK 4
part F text: BANK 5
part G text: BANK 6
part H text: BANK 7

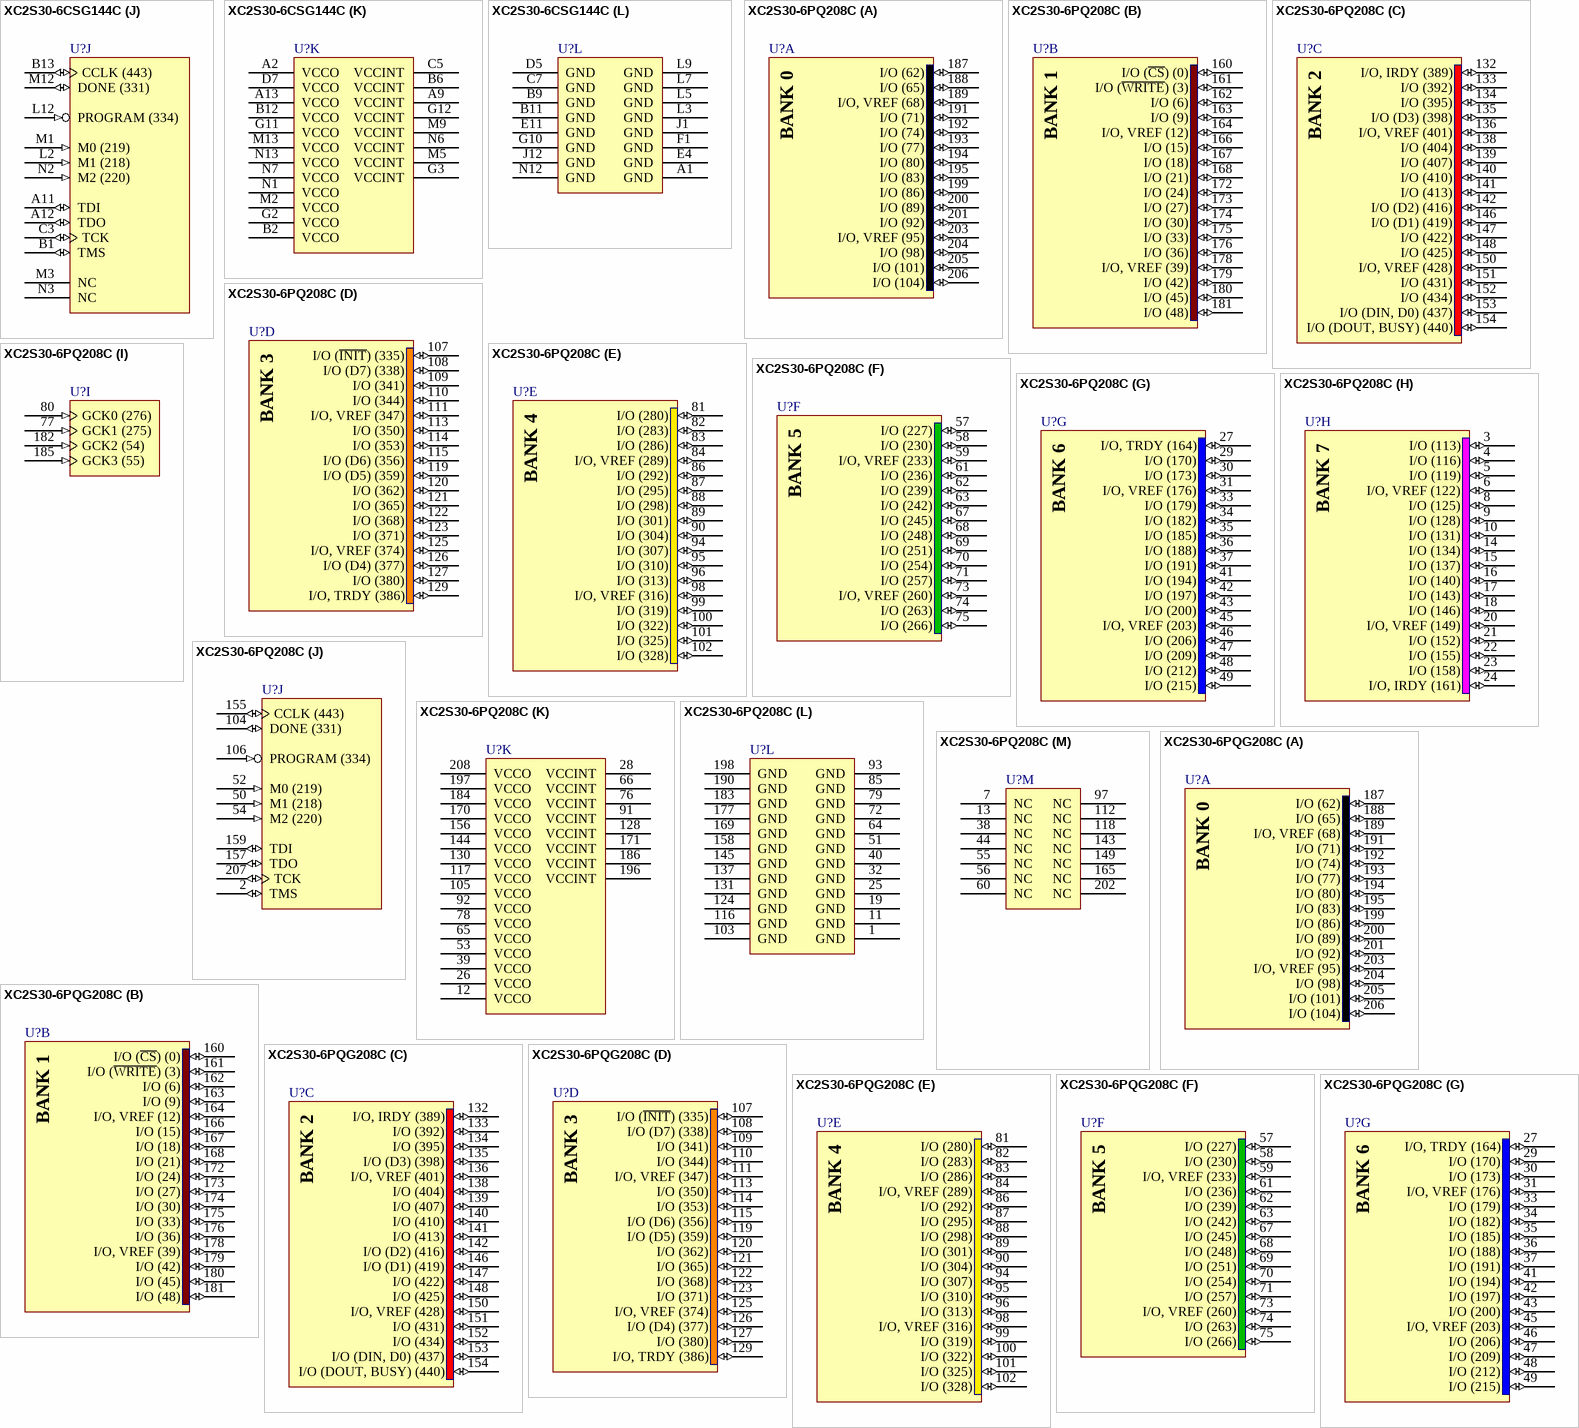
[diagram p15: symbols XC2S30-6CSG144C to XC2S30-6PQG208C]

## XC2S30-6CSG144C
designator U?
Spartan-II 2.5V FPGA, 92 User I/Os, 144-Ball CSBGA, Higher Performance, Commercial Grade, Pb-Free; DatasheetVersion: ver2.8, Jun-2008; PackageVersion: ver1.3, Jan-2007; PackageReference: CSG144; PackageDescription: 144-Ball Chip Scale Ball Grid Array (CSG144) - Pb-Free; Code_JEDEC: MO-216-BAG-2 (Depopulated); ComponentLink1Description: Manufacturer URL; ComponentLink1URL: http://www.xilinx.com/; ComponentLink2Description: Spartan-II Datasheet; ComponentLink2URL: http://www.xilinx.com/support/documentation/data_sheets/ds001.pdf; ComponentLink3Description: CSG144 Package Drawing; ComponentLink3URL: http://www.xilinx.com/support/documentation/package_specs/cs144.pdf; ComponentLink4Description: Spartan-II Documents; ComponentLink4URL: http://www.xilinx.com/support/documentation/spartan-ii.htm
footprint CSG144 (BGA, 144-Leads, Body 12x12mm, Pitch 0.8mm)
part A pins: A3 I/O (101) (io), A4 I/O (86) (io), A5 I/O (80) (io), B3 I/O (104) (io), B4 I/O (89) (io), B5 I/O (83) (io), C4 I/O, VREF (95) (io), C6 I/O (62) (io), D6 I/O, VREF (68) (io)
part B pins: A8 I/O (45) (io), A10 I/O, VREF (12) (io), B7 I/O (48) (io), B8 I/O, VREF (39) (io), B10 I/O (6) (io), C8 I/O (27) (io), C9 I/O (21) (io), C10 I/O (~{WRITE}) (3) (io), D8 I/O (24) (io), D9 I/O (18) (io), D10 I/O (~{CS}) (0) (io)
part C pins: C11 I/O (DOUT, BUSY) (440) (io), C12 I/O (DIN, D0) (437) (io), C13 I/O (434) (io), D11 I/O, VREF (428) (io), D12 I/O (425) (io), D13 I/O (422) (io), E10 I/O (D1) (419) (io), E12 I/O (D2) (416) (io), E13 I/O (413) (io), F10 I/O, VREF (401) (io), F11 I/O (D3) (398) (io), F12 I/O (395) (io), F13 I/O, IRDY (389) (io)
part D pins: G13 I/O, TRDY (386) (io), H10 I/O (362) (io), H11 I/O, VREF (374) (io), H12 I/O (D4) (377) (io), H13 I/O (380) (io), J10 I/O (353) (io), J11 I/O (D6) (356) (io), J13 I/O (D5) (359) (io), K10 I/O (D7) (338) (io), K11 I/O (341) (io), K12 I/O, VREF (347) (io), K13 I/O (350) (io), L13 I/O (~{INIT}) (335) (io)
part E pins: K8 I/O (301) (io), K9 I/O (307) (io), L8 I/O, VREF (289) (io), L10 I/O, VREF (316) (io), L11 I/O (328) (io), M8 I/O (283) (io), M10 I/O (313) (io), M11 I/O (325) (io), N8 I/O (280) (io), N9 I/O (304) (io), N10 I/O (310) (io), N11 I/O (322) (io)
part F pins: K4 I/O (227) (io), K5 I/O (242) (io), K6 I/O (248) (io), L4 I/O, VREF (233) (io), L6 I/O, VREF (260) (io), M4 I/O (236) (io), M6 I/O (266) (io), N4 I/O (239) (io), N5 I/O (245) (io)
part G pins: G1 I/O, TRDY (164) (io), G4 I/O (170) (io), H1 I/O (173) (io), H2 I/O, VREF (176) (io), H3 I/O (188) (io), H4 I/O (191) (io), J2 I/O (194) (io), J3 I/O (197) (io), J4 I/O (200) (io), K1 I/O, VREF (203) (io), K2 I/O (209) (io), K3 I/O (212) (io), L1 I/O (215) (io)
part H pins: C1 I/O (116) (io), C2 I/O (113) (io), D1 I/O (131) (io), D2 I/O (128) (io), D3 I/O (125) (io), D4 I/O, VREF (122) (io), E1 I/O, VREF (149) (io), E2 I/O (137) (io), E3 I/O (134) (io), F2 I/O, IRDY (161) (io), F3 I/O (155) (io), F4 I/O (152) (io)
part I pins: A6 GCK3 (55) (in), A7 GCK2 (54) (in), K7 GCK0 (276) (in), M7 GCK1 (275) (in)
part J pins: A11 TDI (io), A12 TDO (io), B1 TMS (io), B13 CCLK (443) (io), C3 TCK (io), L2 M1 (218) (in), L12 PROGRAM (334) (in), M1 M0 (219) (in), M3 NC, M12 DONE (331) (io), N2 M2 (220) (in), N3 NC
part K pins: A2 VCCO (power), A9 VCCINT (power), A13 VCCO (power), B2 VCCO (power), B6 VCCINT (power), B12 VCCO (power), C5 VCCINT (power), D7 VCCO (power), G2 VCCO (power), G3 VCCINT (power), G11 VCCO (power), G12 VCCINT (power), M2 VCCO (power), M5 VCCINT (power), M9 VCCINT (power), M13 VCCO (power), N1 VCCO (power), N6 VCCINT (power), N7 VCCO (power), N13 VCCO (power)
part L pins: A1 GND (power), B9 GND (power), B11 GND (power), C7 GND (power), D5 GND (power), E4 GND (power), E11 GND (power), F1 GND (power), G10 GND (power), J1 GND (power), J12 GND (power), L3 GND (power), L5 GND (power), L7 GND (power), L9 GND (power), N12 GND (power)
part A text: BANK 0
part B text: BANK 1
part C text: BANK 2
part D text: BANK 3
part E text: BANK 4
part F text: BANK 5
part G text: BANK 6
part H text: BANK 7

## XC2S30-6PQ208C
designator U?
Spartan-II 2.5V FPGA, 132 User I/Os, 208-Pin PQFP, Higher Performance, Commercial Grade; DatasheetVersion: ver2.8, Jun-2008; PackageVersion: ver1.2, Jun-2004; PackageReference: PQ208; PackageDescription: 208-Pin Plastic Quad Flat Pack (PQ208); Code_JEDEC: MS-029-FA-1; ComponentLink1Description: Manufacturer URL; ComponentLink1URL: http://www.xilinx.com/; ComponentLink2Description: Spartan-II Datasheet; ComponentLink2URL: http://www.xilinx.com/support/documentation/data_sheets/ds001.pdf; ComponentLink3Description: PQ208 Package Drawing; ComponentLink3URL: http://www.xilinx.com/support/documentation/package_specs/pq208.pdf; ComponentLink4Description: Spartan-II Documents; ComponentLink4URL: http://www.xilinx.com/support/documentation/spartan-ii.htm
footprint PQ208_N (Shrink QFP, 208-Leads, Body 28x28mm, Pitch 0.5mm, IPC Medium Density)
footprint PQ208_L (Shrink QFP, 208-Leads, Body 28x28mm, Pitch 0.5mm, IPC High Density)
footprint PQ208_M (Shrink QFP, 208-Leads, Body 28x28mm, Pitch 0.5mm, IPC Low Density)
part A pins: 187 I/O (62) (io), 188 I/O (65) (io), 189 I/O, VREF (68) (io), 191 I/O (71) (io), 192 I/O (74) (io), 193 I/O (77) (io), 194 I/O (80) (io), 195 I/O (83) (io), 199 I/O (86) (io), 200 I/O (89) (io), 201 I/O (92) (io), 203 I/O, VREF (95) (io), 204 I/O (98) (io), 205 I/O (101) (io), 206 I/O (104) (io)
part B pins: 160 I/O (~{CS}) (0) (io), 161 I/O (~{WRITE}) (3) (io), 162 I/O (6) (io), 163 I/O (9) (io), 164 I/O, VREF (12) (io), 166 I/O (15) (io), 167 I/O (18) (io), 168 I/O (21) (io), 172 I/O (24) (io), 173 I/O (27) (io), 174 I/O (30) (io), 175 I/O (33) (io), 176 I/O (36) (io), 178 I/O, VREF (39) (io), 179 I/O (42) (io), 180 I/O (45) (io), 181 I/O (48) (io)
part C pins: 132 I/O, IRDY (389) (io), 133 I/O (392) (io), 134 I/O (395) (io), 135 I/O (D3) (398) (io), 136 I/O, VREF (401) (io), 138 I/O (404) (io), 139 I/O (407) (io), 140 I/O (410) (io), 141 I/O (413) (io), 142 I/O (D2) (416) (io), 146 I/O (D1) (419) (io), 147 I/O (422) (io), 148 I/O (425) (io), 150 I/O, VREF (428) (io), 151 I/O (431) (io), 152 I/O (434) (io), 153 I/O (DIN, D0) (437) (io), 154 I/O (DOUT, BUSY) (440) (io)
part D pins: 107 I/O (~{INIT}) (335) (io), 108 I/O (D7) (338) (io), 109 I/O (341) (io), 110 I/O (344) (io), 111 I/O, VREF (347) (io), 113 I/O (350) (io), 114 I/O (353) (io), 115 I/O (D6) (356) (io), 119 I/O (D5) (359) (io), 120 I/O (362) (io), 121 I/O (365) (io), 122 I/O (368) (io), 123 I/O (371) (io), 125 I/O, VREF (374) (io), 126 I/O (D4) (377) (io), 127 I/O (380) (io), 129 I/O, TRDY (386) (io)
part E pins: 81 I/O (280) (io), 82 I/O (283) (io), 83 I/O (286) (io), 84 I/O, VREF (289) (io), 86 I/O (292) (io), 87 I/O (295) (io), 88 I/O (298) (io), 89 I/O (301) (io), 90 I/O (304) (io), 94 I/O (307) (io), 95 I/O (310) (io), 96 I/O (313) (io), 98 I/O, VREF (316) (io), 99 I/O (319) (io), 100 I/O (322) (io), 101 I/O (325) (io), 102 I/O (328) (io)
part F pins: 57 I/O (227) (io), 58 I/O (230) (io), 59 I/O, VREF (233) (io), 61 I/O (236) (io), 62 I/O (239) (io), 63 I/O (242) (io), 67 I/O (245) (io), 68 I/O (248) (io), 69 I/O (251) (io), 70 I/O (254) (io), 71 I/O (257) (io), 73 I/O, VREF (260) (io), 74 I/O (263) (io), 75 I/O (266) (io)
part G pins: 27 I/O, TRDY (164) (io), 29 I/O (170) (io), 30 I/O (173) (io), 31 I/O, VREF (176) (io), 33 I/O (179) (io), 34 I/O (182) (io), 35 I/O (185) (io), 36 I/O (188) (io), 37 I/O (191) (io), 41 I/O (194) (io), 42 I/O (197) (io), 43 I/O (200) (io), 45 I/O, VREF (203) (io), 46 I/O (206) (io), 47 I/O (209) (io), 48 I/O (212) (io), 49 I/O (215) (io)
part H pins: 3 I/O (113) (io), 4 I/O (116) (io), 5 I/O (119) (io), 6 I/O, VREF (122) (io), 8 I/O (125) (io), 9 I/O (128) (io), 10 I/O (131) (io), 14 I/O (134) (io), 15 I/O (137) (io), 16 I/O (140) (io), 17 I/O (143) (io), 18 I/O (146) (io), 20 I/O, VREF (149) (io), 21 I/O (152) (io), 22 I/O (155) (io), 23 I/O (158) (io), 24 I/O, IRDY (161) (io)
part I pins: 77 GCK1 (275) (in), 80 GCK0 (276) (in), 182 GCK2 (54) (in), 185 GCK3 (55) (in)
part J pins: 2 TMS (io), 50 M1 (218) (in), 52 M0 (219) (in), 54 M2 (220) (in), 104 DONE (331) (io), 106 PROGRAM (334) (in), 155 CCLK (443) (io), 157 TDO (io), 159 TDI (io), 207 TCK (io)
part K pins: 12 VCCO (power), 26 VCCO (power), 28 VCCINT (power), 39 VCCO (power), 53 VCCO (power), 65 VCCO (power), 66 VCCINT (power), 76 VCCINT (power), 78 VCCO (power), 91 VCCINT (power), 92 VCCO (power), 105 VCCO (power), 117 VCCO (power), 128 VCCINT (power), 130 VCCO (power), 144 VCCO (power), 156 VCCO (power), 170 VCCO (power), 171 VCCINT (power), 184 VCCO (power), 186 VCCINT (power), 196 VCCINT (power), 197 VCCO (power), 208 VCCO (power)
part L pins: 1 GND (power), 11 GND (power), 19 GND (power), 25 GND (power), 32 GND (power), 40 GND (power), 51 GND (power), 64 GND (power), 72 GND (power), 79 GND (power), 85 GND (power), 93 GND (power), 103 GND (power), 116 GND (power), 124 GND (power), 131 GND (power), 137 GND (power), 145 GND (power), 158 GND (power), 169 GND (power), 177 GND (power), 183 GND (power), 190 GND (power), 198 GND (power)
part M pins: 7 NC, 13 NC, 38 NC, 44 NC, 55 NC, 56 NC, 60 NC, 97 NC, 112 NC, 118 NC, 143 NC, 149 NC, 165 NC, 202 NC
part A text: BANK 0
part B text: BANK 1
part C text: BANK 2
part D text: BANK 3
part E text: BANK 4
part F text: BANK 5
part G text: BANK 6
part H text: BANK 7

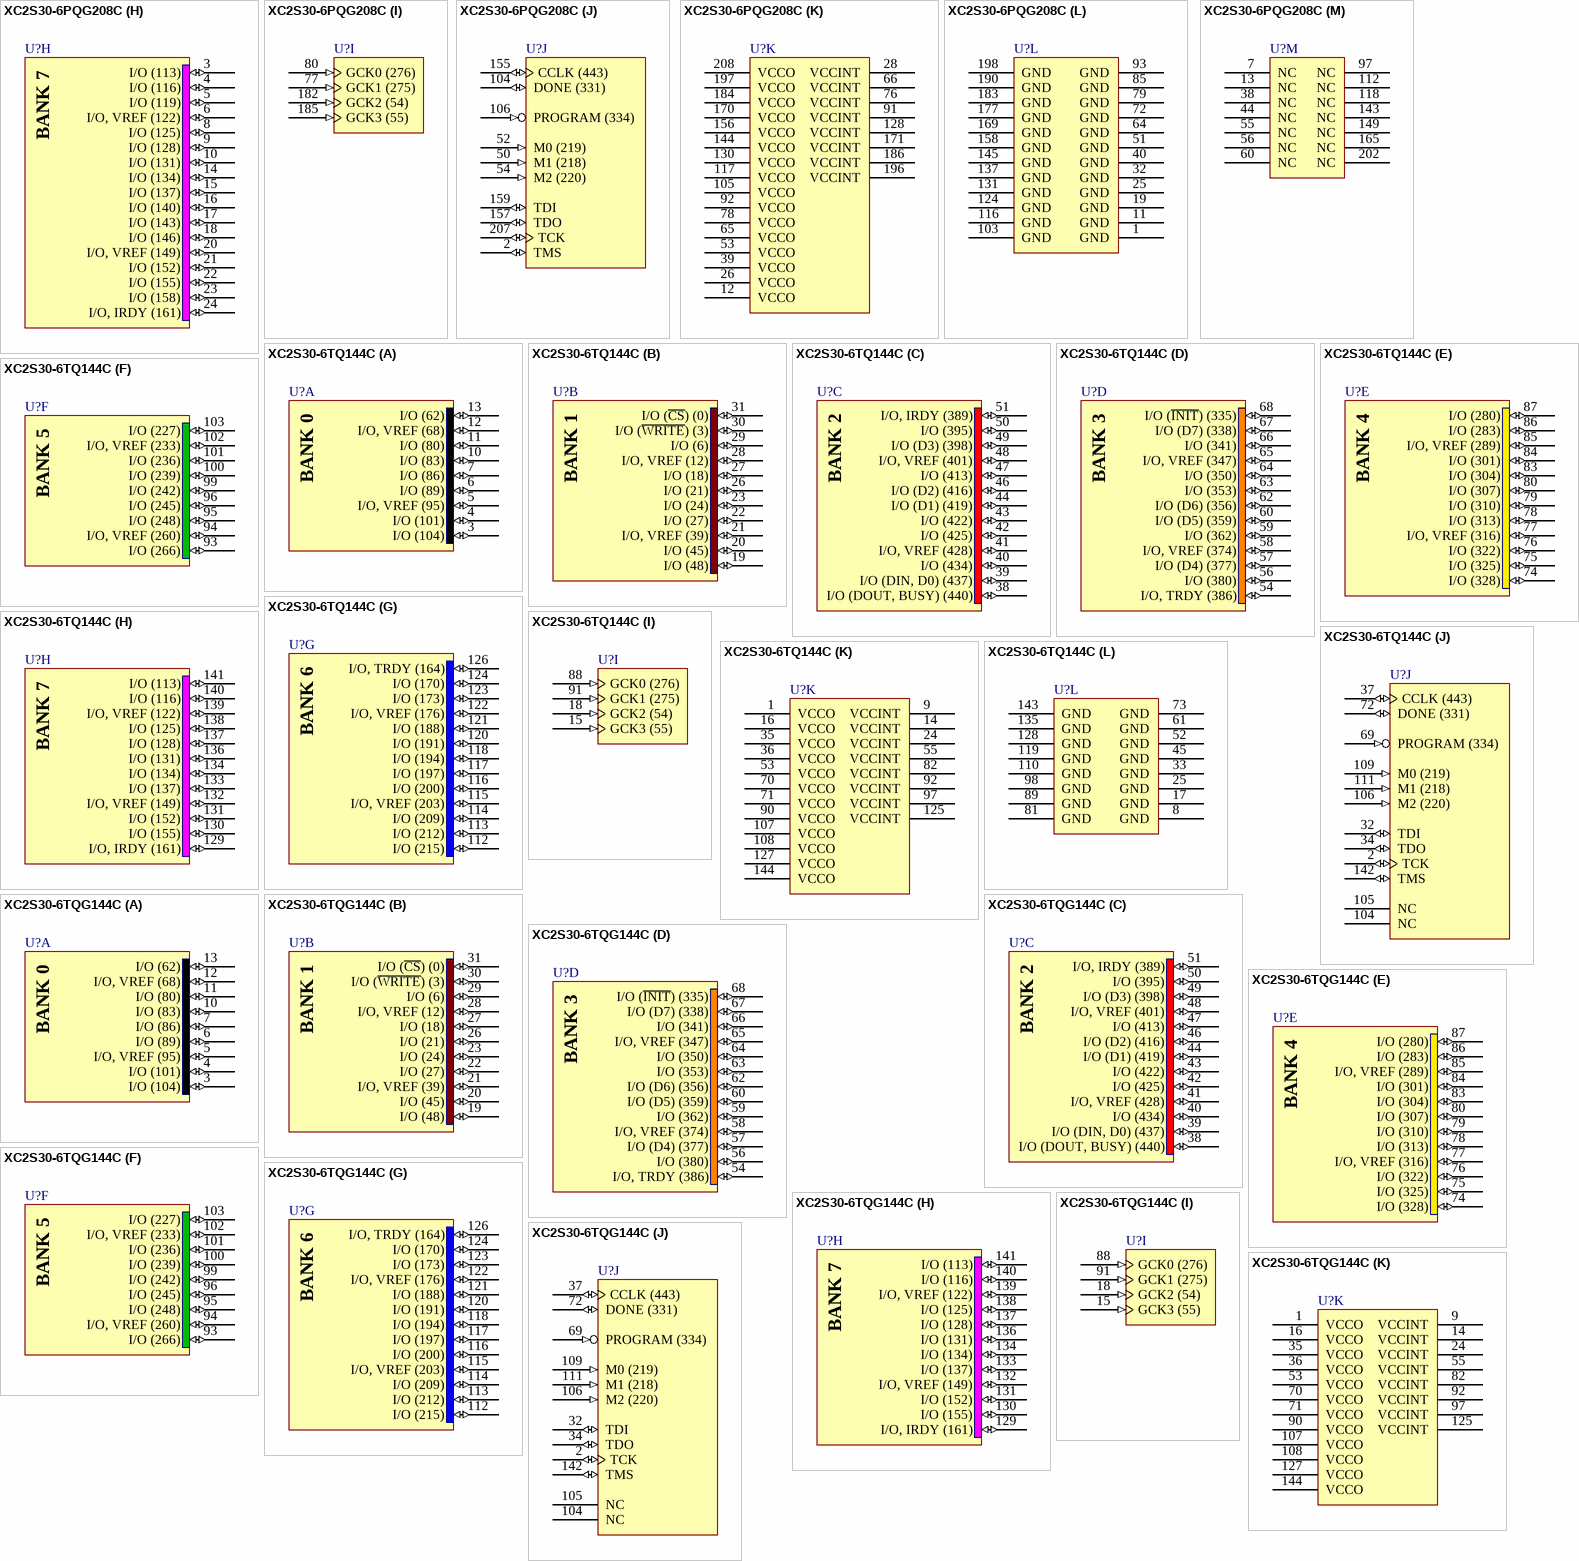
[diagram p16: symbols XC2S30-6PQG208C to XC2S30-6TQG144C]